# Altium schematic symbol library AdamsParts.SchLib: 265 symbols (part 1 of 3)
Pins are listed as number, name and electrical type; pins without a type are passive.

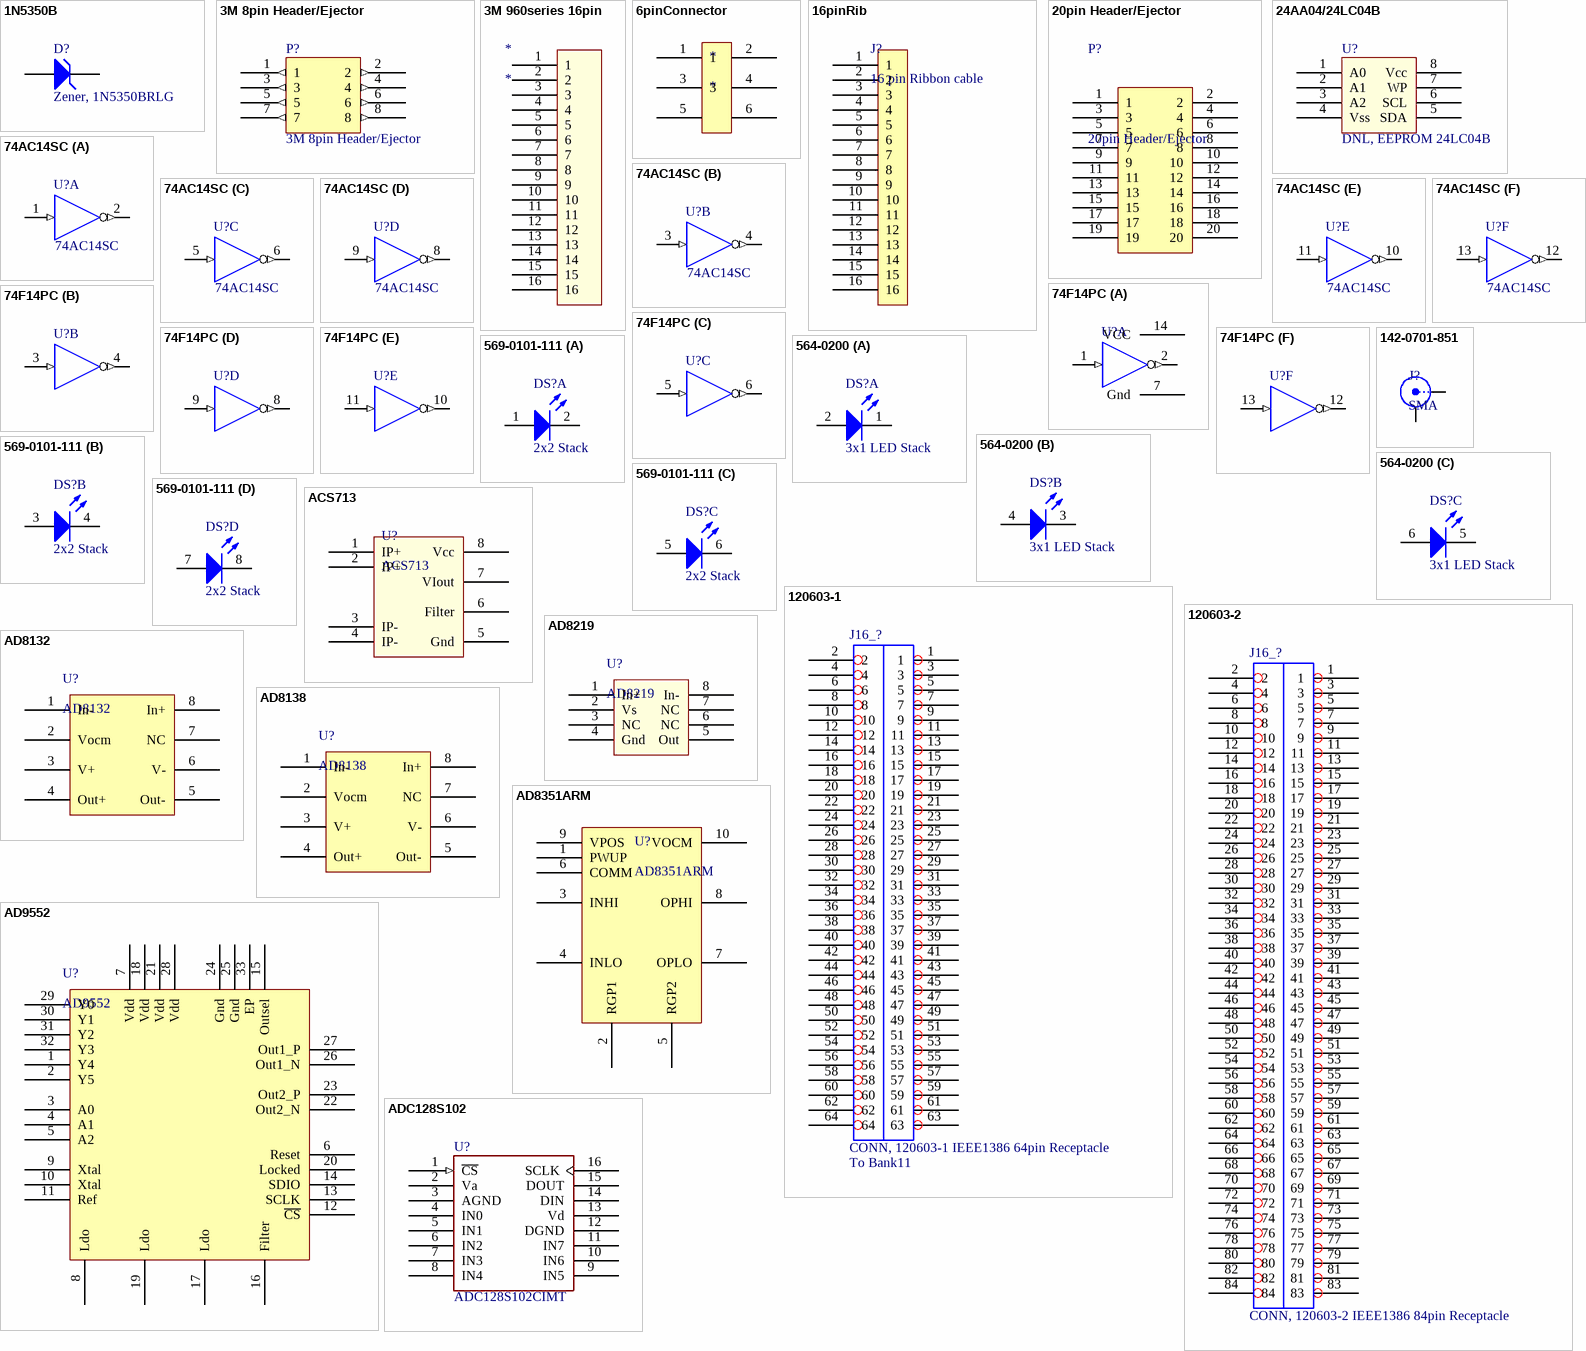
[diagram p0: symbols 1N5350B to ADC128S102]

## 1N5350B
designator D?, comment Zener, 1N5350BRLG
Zener Diode, 13V, 5W; Published: 8-Jun-2000; LatestRevisionDate: 17-Jul-2002; LatestRevisionNote: Re-released for DXP Platform.; PackageReference: A-500; Publisher: Altium Limited; ComponentLink1Description: Manufacturer Link; ComponentLink1URL: http://www.vishay.com/
footprint A-500 (Diode, Axial; Body 8.9 x 3.7 mm (LxDia. max), Lead Dia. 1.09 mm (max))
simulation model 1N5350B (DIODE)
signal-integrity model 1N5350B
pins: 1 A, 2 K

## 3M 8pin Header/Ejector
designator P?
footprint 3M 8pin latch/ejector
pins: 1 (out), 2 (out), 3 (out), 4 (out), 5 (out), 6 (out), 7 (out), 8 (out)

## 3M 960series 16pin
designator *
footprint 3M 960series 16pin
pins: 1, 2, 3, 4, 5, 6, 7, 8, 9, 10, 11, 12, 13, 14, 15, 16

## 6pinConnector
designator *
footprint Tyco 6pin Shrouded Header
pins: 1, 2, 3, 4, 5, 6

## 16pinRib
designator J?, comment 16 pin Ribbon cable
footprint 16pinRib (16 pin ribbon connector)
pins: 1, 2, 3, 4, 5, 6, 7, 8, 9, 10, 11, 12, 13, 14, 15, 16

## 20pin Header/Ejector
designator P?
footprint AmpLatch5102159-4 (20pin 2 row right angle header with latch/ejector)
pins: 1, 2, 3, 4, 5, 6, 7, 8, 9, 10, 11, 12, 13, 14, 15, 16, 17, 18, 19, 20

## 24AA04/24LC04B
designator U?, comment DNL, EEPROM 24LC04B
4K I2C Serial EEPROM
footprint TSSOP8-4.4 (8-Lead Plastic TSSOP 4.4mm)
pins: 1 A0, 2 A1, 3 A2, 4 Vss (power), 5 SDA, 6 SCL, 7 WP, 8 Vcc (power)

## 74AC14SC
designator U?
Hex Schmitt-Trigger Inverter, 14-Pin SOIC, Commercial Grade; IC_Technology: AC; Published: 17-Jul-2002; LatestRevisionDate: 13-Apr-2006; LatestRevisionNote: IPC-7351 Footprint Added.; DatasheetVersion: Dec-1999; PackageVersion: 2000; PackageReference: M14A; Publisher: Altium Limited; PackageDescription: 14-Pin Small Outline Integrated Circuit 1.27 mm Pitch; Code_IPC: SOIC127P600-14; ComponentLink1Description: Manufacturer Link; ComponentLink1URL: http://www.fairchildsemi.com/; ComponentLink2Description: Datasheet; ComponentLink2URL: http://www.fairchildsemi.com/ds/74%2F74AC14.pdf
footprint M14A_N (SOIC, 14-Leads, Body 8.6x3.9mm, Pitch 1.27mm, IPC Medium Density)
footprint M14A_L (SOIC, 14-Leads, Body 8.6x3.9mm, Pitch 1.27mm, IPC High Density)
footprint M14A_M (SOIC, 14-Leads, Body 8.6x3.9mm, Pitch 1.27mm, IPC Low Density)
3D model M14A (14-Pin Small Outline Integrated Circuit 1.27 mm Pitch)
simulation model FSC_74LS14 (SIMCODE)
signal-integrity model 74AC14SC
pins on every part: 7 GND (power) hidden to GND, 14 VCC (power) hidden to VCC
part A pins: 1 I (in), 2 ~{O} (out)
part B pins: 3 I (in), 4 ~{O} (out)
part C pins: 5 I (in), 6 ~{O} (out)
part D pins: 8 ~{O} (out), 9 I (in)
part E pins: 10 ~{O} (out), 11 I (in)
part F pins: 12 ~{O} (out), 13 I (in)

## 74F14PC
designator U?
Hex Inverter Schmitt-Trigger, 14-Pin PDIP, Commercial Grade; IC_Technology: F; Published: 17-Jul-2002; LatestRevisionDate: 29-May-2009; LatestRevisionNote: Component Body Added.; DatasheetVersion: Jul-1999; PackageVersion: 2000; PackageReference: N14A; Publisher: Altium Limited; PackageDescription: DIP, 14-Pin, Row Spacing 7.62 mm, Pitch 2.54 mm; ComponentLink1Description: Manufacturer Link; ComponentLink1URL: http://www.fairchildsemi.com/; ComponentLink2Description: Datasheet; ComponentLink2URL: http://www.fairchildsemi.com/ds/74%2F74F14.pdf
footprint N14A (DIP, 14-Leads, Row Spacing 7.62mm, Pitch 2.54mm, Body 19.18x6.35mm)
3D model N14A (DIP, 14-Pin, Row Spacing 7.62 mm, Pitch 2.54 mm)
simulation model FSC_74F14 (SIMCODE)
signal-integrity model 74F14PC
part A pins: 1 I (in), 2 ~{O} (out), 7 Gnd, 14 VCC
part B pins: 3 I (in), 4 ~{O} (out)
part C pins: 5 I (in), 6 ~{O} (out)
part D pins: 8 ~{O} (out), 9 I (in)
part E pins: 10 ~{O} (out), 11 I (in)
part F pins: 12 ~{O} (out), 13 I (in)

## 142-0701-851
designator J?, comment SMA
SMA Connector 142-0701-851; Part Constraints: CONN JACK END LAUNCH PC GOLD SMA; Manufacturer: Emerson Network Power Connectivity; Manufacturers P/N: 142-0701-851
footprint SMA-1420701851 (End launch SMA connector)
pins: 0 Y, 1 X

## 564-0200
designator DS?, comment 3x1 LED Stack
Color: Green (x 3); Configuration: 3 high x 1 wide; Voltage Rating: 2.0V; Current: 20mA; Lens Style/Size: Round, 3mm, T-1; Lens Type: Diffused, Red Tinted; Mounting Type: Through Hole, Right Angle; Packaging: Bulk
footprint LED3x1
part A pins: 1 K1, 2 A1
part B pins: 3 K2, 4 A2
part C pins: 5 K3, 6 A3

## 569-0101-111
designator DS?, comment 2x2 Stack
LED 2X2 3MM HI DENSITY RED PCMNT; Color: Red (x 4); Configuration: 2 high x 2 wide; Voltage Rating: 2.0V; Current: 20mA; Lens Style/Size: Round, 3mm, T-1; Lens Type: Diffused, Red Tinted; Mounting Type: Through Hole, Right Angle; Packaging: Bulk; ComponentLink1URL: http://www.dialight.com/Assets/Brochures_And_Catalogs/Indication/569-010x-xxx.pdf; ComponentLink1Description: http://www.dialight.com/Assets/Brochures_And_Catalogs/Indication/569-010x-xxx.pdf
footprint LED2x2 (LED 2x2 Stack from Dialight)
part A pins: 1 A1, 2 K1
part B pins: 3 A2, 4 K2
part C pins: 5 A3, 6 K3
part D pins: 7 A4, 8 K4

## 120603-1
designator J16_?, comment CONN, 120603-1 IEEE1386 64pin Receptacle  Relation: To Bank11
1.0mm FH (IEEE1386) 64-pin Connector
footprint 120603-1
pins: 1, 2, 3, 4, 5, 6, 7, 8, 9, 10, 11, 12, 13, 14, 15, 16, 17, 18, 19, 20, 21, 22, 23, 24, 25, 26, 27, 28, 29, 30, 31, 32, 33, 34, 35, 36, 37, 38, 39, 40, 41, 42, 43, 44, 45, 46, 47, 48, 49, 50, 51, 52, 53, 54, 55, 56, 57, 58, 59, 60, 61, 62, 63, 64

## 120603-2
designator J16_?, comment CONN, 120603-2 IEEE1386 84pin Receptacle
1.0mm FH (IEEE1386) 84-pin Connector
footprint 120603-2 (1.0mm FH (IEEE1386) 84-Pin Connector)
pins: 1, 2, 3, 4, 5, 6, 7, 8, 9, 10, 11, 12, 13, 14, 15, 16, 17, 18, 19, 20, 21, 22, 23, 24, 25, 26, 27, 28, 29, 30, 31, 32, 33, 34, 35, 36, 37, 38, 39, 40, 41, 42, 43, 44, 45, 46, 47, 48, 49, 50, 51, 52, 53, 54, 55, 56, 57, 58, 59, 60, 61, 62, 63, 64, 65, 66, 67, 68, 69, 70, 71, 72, 73, 74, 75, 76, 77, 78, 79, 80, 81, 82, 83, 84

## ACS713
designator U?
Hall effect current sensor 0-20A
footprint SO8
pins: 1 IP+, 2 IP+, 3 IP-, 4 IP-, 5 Gnd, 6 Filter, 7 VIout, 8 Vcc

## AD8132
designator U?
IC AMP DIFF
footprint SOP8
pins: 1 In-, 2 Vocm, 3 V+, 4 Out+, 5 Out-, 6 V-, 7 NC, 8 In+
1 alternate drawing of the same symbol

## AD8138
designator U?
IC AMP DIFF LDIST LP 95MA 8SOIC; Manufacturer: Analog Devices Inc; Manufacturers Part Number: AD8138ARZ; Assembly Comments: none; Supplier 1: Digi-Key; RoHS: RoHS Compliant; Category: Integrated Circuits (ICs); Type: IC; Applications: Data Acquisition; Mounting Type: Surface Mount; Package / Case: 8-SOIC (0.154", 3.90mm Width); Supplier Device Package: 8-SOIC; Packaging: Tube; ComponentLink1URL: http://www.analog.com/static/imported-files/data_sheets/AD8138.pdf; ComponentLink1Description: http://www.analog.com/static/imported-files/data_sheets/AD8138.pdf; Part Constraints: AD8138ARZ; SupplierUnitCost: $6.44
footprint SO8
pins: 1 In-, 2 Vocm, 3 V+, 4 Out+, 5 Out-, 6 V-, 7 NC, 8 In+
1 alternate drawing of the same symbol

## AD8219
designator U?
Current sense
footprint MSOP-8
pins: 1 In+, 2 Vs, 3 NC, 4 Gnd, 5 Out, 6 NC, 7 NC, 8 In-

## AD8351ARM
designator U?
footprint MSOP-UN10_N (TSSOP, 10-Leads, Body 3x3mm, Pitch 0.5mm, IPC Medium Density)
pins: 1 PWUP, 2 RGP1, 3 INHI, 4 INLO, 5 RGP2, 6 COMM, 7 OPLO, 8 OPHI, 9 VPOS, 10 VOCM

## AD9552
designator U?
PLL
footprint QFN50P500X475X100-32N (QFN, 32-Leads, Body 4.8x5.0mm (max), Pitch 0.50mm, IPC Medium Density)
pins: 1 Y4, 2 Y5, 3 A0, 4 A1, 5 A2, 6 Reset, 7 Vdd, 8 Ldo, 9 Xtal, 10 Xtal, 11 Ref, 12 ~{CS}, 13 SCLK, 14 SDIO, 15 Outsel, 16 Filter, 17 Ldo, 18 Vdd, 19 Ldo, 20 Locked, 21 Vdd, 22 Out2_N, 23 Out2_P, 24 Gnd, 25 Gnd, 26 Out1_N, 27 Out1_P, 28 Vdd, 29 Y0, 30 Y1, 31 Y2, 32 Y3, 33 EP

## ADC128S102
designator U?, comment ADC128S102CIMT
ADC, 8-Channels, 500kSPS to 1 MSPS, 12-Bit; Manufacturer: National Semiconductor; Manufacturers P/N: ADC128S102CIMT/NOPB; Footprint: *
footprint TSSOP-16
pins: 1 ~{CS} (in), 2 Va (power), 3 AGND (power), 4 IN0, 5 IN1, 6 IN2, 7 IN3, 8 IN4, 9 IN5, 10 IN6, 11 IN7, 12 DGND (power), 13 Vd (power), 14 DIN, 15 DOUT, 16 SCLK

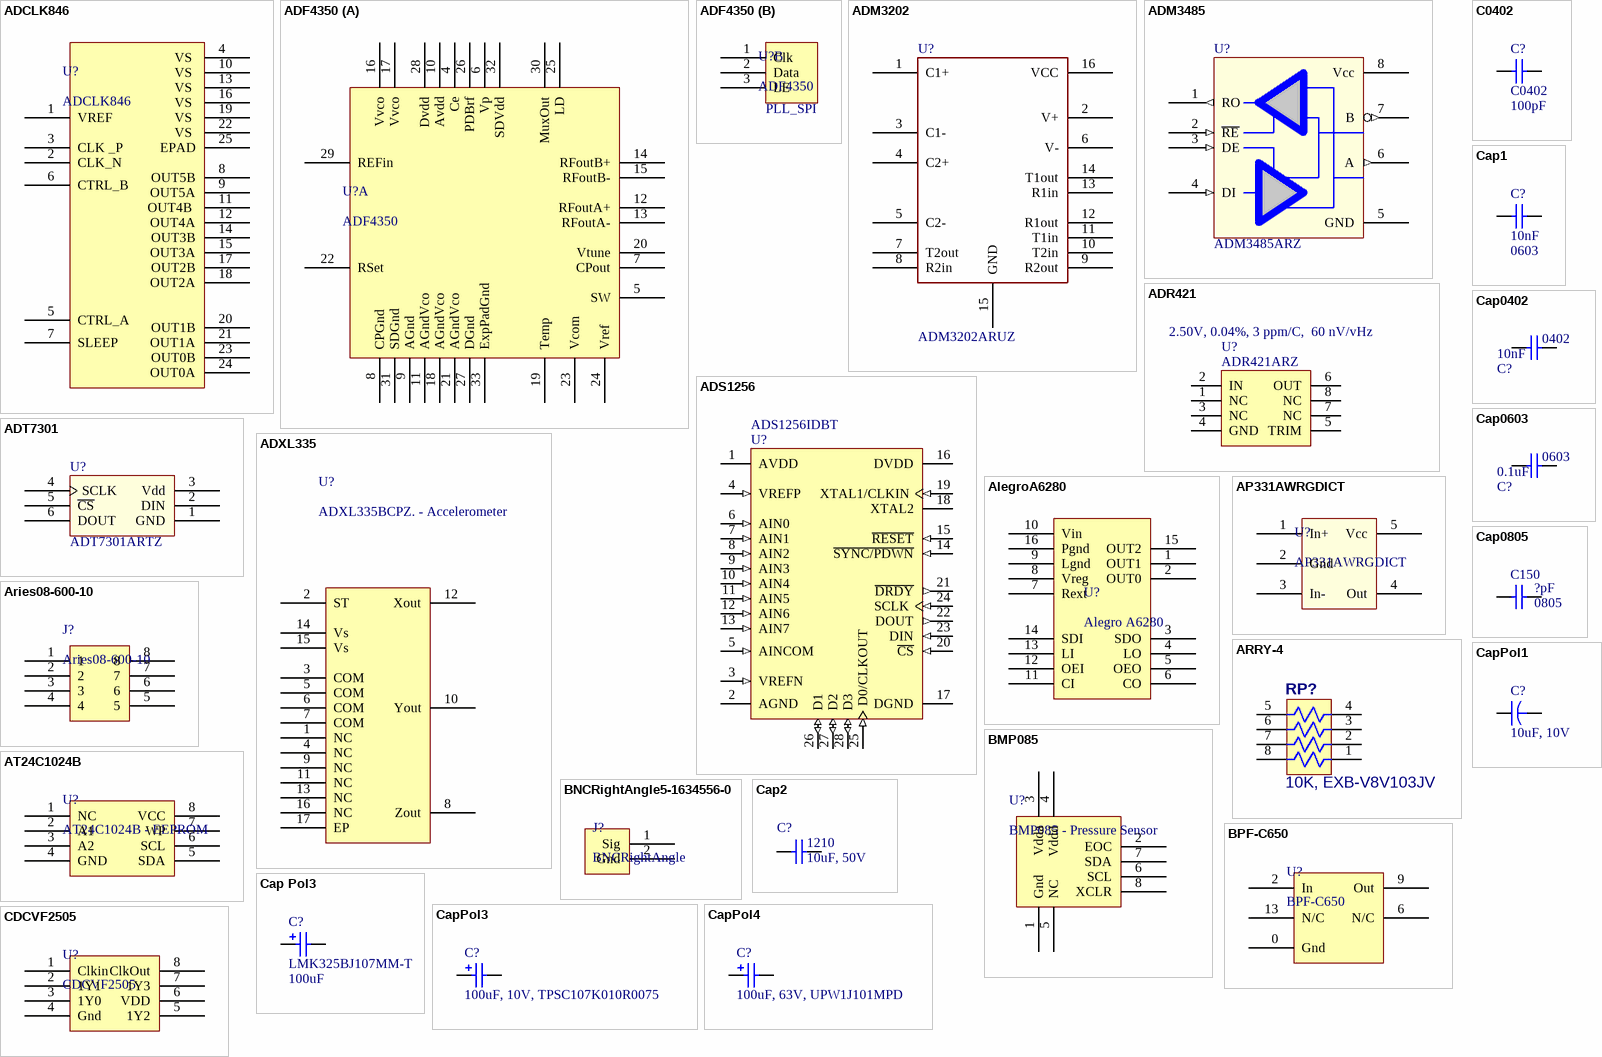
[diagram p1: symbols ADCLK846 to CDCVF2505]

## ADCLK846
designator U?
Clock fanout buffer
footprint QFN50P400X375X100-24N (QFN, 24-Leads, Body 3.8x4.0mm (max), Pitch 0.50mm, IPC Medium Density)
pins: 1 VREF , 2 CLK_N, 3 CLK _P, 4 VS , 5 CTRL_A , 6 CTRL_B , 7 SLEEP , 8 OUT5B, 9 OUT5A, 10 VS , 11 OUT4B , 12 OUT4A, 13 VS , 14 OUT3B, 15 OUT3A, 16 VS , 17 OUT2B, 18 OUT2A, 19 VS , 20 OUT1B, 21 OUT1A, 22 VS , 23 OUT0B, 24 OUT0A, 25 EPAD

## ADF4350
designator U?
footprint QFN50P500X475X100-32M (QFN, 32-Leads, Body 4.8x5.0mm (max), Pitch 0.50mm, IPC Low Density)
part A pins: 4 Ce, 5 SW, 6 Vp, 7 CPout, 8 CPGnd, 9 AGnd, 10 Avdd, 11 AGndVco, 12 RFoutA+, 13 RFoutA-, 14 RFoutB+, 15 RFoutB-, 16 Vvco, 17 Vvco, 18 AGndVco, 19 Temp, 20 Vtune, 21 AGndVco, 22 RSet, 23 Vcom, 24 Vref, 25 LD, 26 PDBrf, 27 DGnd, 28 Dvdd, 29 REFin, 30 MuxOut, 31 SDGnd, 32 SDVdd, 33 ExpPadGnd
part B pins: 1 Clk, 2 Data, 3 LE
part B text: PLL_SPI

## ADM3202
designator U?, comment ADM3202ARUZ
Transceiver, Dual RS232; Manufacturer: Analog Devices Inc; Footprint: *; Manufacturers P/N: ADM3202ARUZ
footprint TSSOP-16
pins: 1 C1+, 2 V+ (power), 3 C1-, 4 C2+, 5 C2-, 6 V- (power), 7 T2out, 8 R2in, 9 R2out, 10 T2in, 11 T1in, 12 R1out, 13 R1in, 14 T1out, 15 GND (power), 16 VCC (power)

## ADM3485
designator U?, comment ADM3485ARZ
Transceiver, 20 Mbps, EIA RS-485; Manufacturer: Analog Devices Inc; Footprint: *; Manufacturers P/N: ADM3485ARZ
footprint SO8
pins: 1 RO (out), 2 ~{RE} (in), 3 DE (in), 4 DI (in), 5 GND (power), 6 A (out), 7 B (out), 8 Vcc (power)

## ADR421
designator U?, comment ADR421ARZ  Param: 2.50V, 0.04%, 3 ppm/C,  60 nV/vHz
Voltage Reference, 2.50V, 0.04%; Manufacturer: Analog Devices Inc; Footprint: *; Manufacturers P/N: ADR421ARZ
footprint SO8
pins: 1 NC, 2 IN (power), 3 NC, 4 GND (power), 5 TRIM, 6 OUT (power), 7 NC, 8 NC

## ADS1256
designator U?, comment ADS1256IDBT
ADC 24-Bit; Manufacturer: Texas Instruments; Footprint: SSOP-28; Manufacturers P/N: ADS1256IDBT
footprint SSOP-28
pins: 1 AVDD (power), 2 AGND (power), 3 VREFN (in), 4 VREFP (in), 5 AINCOM (in), 6 AIN0 (in), 7 AIN1 (in), 8 AIN2 (in), 9 AIN3 (in), 10 AIN4 (in), 11 AIN5 (in), 12 AIN6 (in), 13 AIN7 (in), 14 ~{SYNC/PDWN} (in), 15 ~{RESET} (in), 16 DVDD (power), 17 DGND (power), 18 XTAL2, 19 XTAL1/CLKIN (in), 20 ~{CS} (in), 21 ~{DRDY} (out), 22 DOUT (out), 23 DIN (in), 24 SCLK (in), 25 D0/CLKOUT (in), 26 D1 (io), 27 D2 (io), 28 D3 (io)

## ADT7301
designator U?, comment ADT7301ARTZ
Digital Temperature Sensor, 13-Bit, +/-1 Degree Accurate; Manufacturer: Analog Devices Inc; Footprint: *; Manufacturers P/N: ADT7301ARTZ
pins: 1 GND (power), 2 DIN, 3 Vdd (power), 4 SCLK, 5 ~{CS}, 6 DOUT

## ADXL335
designator U?, comment ADXL335BCPZ. - Accelerometer
footprint ADXL335 (QFN, 16-Leads, Body 4.2x4.2mm (max), Pitch 0.65mm, IPC Low Density)
pins: 1 NC, 2 ST, 3 COM, 4 NC, 5 COM, 6 COM, 7 COM, 8 Zout, 9 NC, 10 Yout, 11 NC, 12 Xout, 13 NC, 14 Vs, 15 Vs, 16 NC, 17 EP

## AlegroA6280
designator U?, comment Alegro A6280
footprint DIP16
pins: 1 OUT1, 2 OUT0, 3 SDO, 4 LO, 5 OEO, 6 CO, 7 Rext, 8 Vreg, 9 Lgnd, 10 Vin, 11 CI, 12 OEI, 13 LI, 14 SDI, 15 OUT2, 16 Pgnd

## AP331AWRGDICT
designator U?
footprint SOT23-5
pins: 1 In+, 2 Gnd, 3 In-, 4 Out, 5 Vcc

## Aries08-600-10
designator J?
Aries08-600-10 - Dip 8 header
footprint Aries08-600-10 (8 PIN DIP HEADER)
pins: 1, 2, 3, 4, 5, 6, 7, 8

## ARRY-4
designator RP?, comment 10K, EXB-V8V103JV
4x 0603 RES ARRAY 10K OHM 5% SMD; Part Field 1: Chip Resistor Array in 3.2 x 1.6 Concave package; Manufacturer: Panasonic - ECG; Part Field 2: {Panasonic} EXBV8V101J; Manufacturers P/N: EXB-V8V103JV
footprint EXB-V8V
pins: 1 R1A, 2 R2A, 3 R3A, 4 R4A, 5 R4B, 6 R3B, 7 R2B, 8 R1B

## AT24C1024B
designator U?, comment AT24C1024B - EEPROM
footprint SO8/L200
pins: 1 NC, 2 A1, 3 A2, 4 GND, 5 SDA, 6 SCL, 7 WP, 8 VCC

## BMP085
designator U?, comment BMP085 - Pressure Sensor
footprint BMP085 (Pressure sensor)
pins: 1 Gnd, 2 EOC, 3 Vdda, 4 Vddd, 5 NC, 6 SCL, 7 SDA, 8 XCLR

## BNCRightAngle5-1634556-0
designator J?, comment BNCRightAngle
footprint BNCRightAngle5-1634556-0
pins: 1 Sig, 2 Gnd

## BPF-C650
designator U?
footprint HU1186
pins: 0 Gnd, 2 In, 6 N/C, 9 Out, 13 N/C

## C0402
designator C?  value 100pF
CAP CER 100PF 50V C0G 1% 0402; Manufacturers P/N: e.g C1005C0G1H101F; Manufacturer: e.g TDK Corporation; Part constraints: 100pF 0402 >=6V 1% Low ESR Ceramic; Note: Footprint corresponds to dimensions for bulk cassette packaging. This case size has tightened tolerances.; CanPurchaseFrom: Digikey; Published: 17-Jul-2002; LatestRevisionDate: 19-Mar-2004; LatestRevisionNote: Silkscreen size reduced.; DatasheetDocument: Mar-2001; PackageDocument: Mar-2001; PackageReference: 0402; Publisher: Altium Limited; Code_JEITA: 0402; Code_IPC: 1005 [0402]; ComponentLink1Description: Manufacturer Link; ComponentLink1URL: http://www.kemet.com/; ComponentLink2Description: Datasheet; ComponentLink2URL: http://www.kemet.com/kemet/web/homepage/kechome.nsf/vapubfilesname/F3102TA.pdf/$file/F3102TA.pdf
footprint 0402 (Chip Capacitor; Body 1.0 x 0.5 mm (LxW typ))
simulation model CAP (Capacitor)
signal-integrity model C0402
pins: 1, 2

## Cap1
designator C?, comment 10nF  Footprint: 0603
CAP 10000PF 5% 50V CERAMIC X7R 0603 (or Equivalent); Manufacturer: Kemet; Manufacturers P/N: C0603C103J5RACTU
simulation model CAP (Capacitor)
signal-integrity model Cap
footprint 0603
pins: 1, 2

## Cap2
designator C?, comment 10uF, 50V  Footprint: 1210
CAP CER 10UF, 50V, 10%, UMK325BJ106KM-T; Manufacturer: Taiyo Yuden; Param: 50V, X5R, 10%; Manufacturers P/N: UMK325BJ106KM-T
simulation model CAP (Capacitor)
signal-integrity model Cap
footprint 1210
pins: 1, 2

## Cap0402
designator C?, comment 10nF  Footprint: 0402
Capacitor, Ceramic, 0402; TechInf: *; Param1: *
simulation model CAP (Capacitor)
signal-integrity model Cap
pins: 1, 2

## Cap0603
designator C?, comment 0.1uF  Footprint: 0603
Capacitor, Ceramic, 0603; TechInf: *; Param1: *
simulation model CAP (Capacitor)
signal-integrity model Cap
footprint 0603
footprint 0805
pins: 1, 2

## Cap0805
designator C150, comment ?pF
0805; CanPurchaseFrom: Digikey; TechInf: *; Param1: *; Footprint: 0805
simulation model CAP (Capacitor)
signal-integrity model Cap
footprint 0805
pins: 1, 2

## Cap Pol3
designator C?, comment LMK325BJ107MM-T  value 100uF
CAP CER 100UF 10V X5R 1210 20%; Manufacturer: Taiyo Yuden; Published: 8-Jun-2000; Publisher: Altium Limited; PackageDescription: Chip Capacitor; Manufacturers P/N: LMK325BJ107MM-T
simulation model CAP (Capacitor)
signal-integrity model Cap Pol
footprint 1210 (Chip Capacitor; Body 3.2 x 2.5 mm (LxW typ))
pins: 1, 2
1 alternate drawing of the same symbol

## CapPol1
designator C?, comment 10uF, 10V
CAP CER 10V, X5R, 10%, LMK212BJ106KG-T; Manufacturer: Taiyo Yuden; Footprint: 0805; Param: 10V, X5R, 10%; Manufacturers P/N: LMK212BJ106KG-T
simulation model CAP (Capacitor)
signal-integrity model Cap
footprint 0805
pins: 1, 2

## CapPol3
designator C?, comment 100uF, 10V, TPSC107K010R0075
CAP TANT LOESR 100uFx10V 10% SMD; Manufacturer: AVX Corporation; Footprint: 7343-31 (EIA); Manufacturers P/N: TPSC107K010R0075
simulation model CAP (Capacitor)
signal-integrity model Cap Pol
footprint TCASE-D
footprint TCASE-A
pins: 1, 2
1 alternate drawing of the same symbol

## CapPol4
designator C?, comment 100uF, 63V, UPW1J101MPD
CAP Radial 100uF 63V 20% (or Equivalent); Manufacturer: Nichicon; Footprint: *; Manufacturers P/N: UPW1J101MPD
simulation model CAP (Capacitor)
signal-integrity model Cap Pol
footprint CC-10X12-5
pins: 1, 2
1 alternate drawing of the same symbol

## CDCVF2505
designator U?
PLL 24->200Mhz PLL
footprint TSOP65P640X120-8N (TSOP, 8-Leads, Body 3.1x4.5mm (max), Pitch 0.65mm, IPC Medium Density)
footprint SO8
pins: 1 Clkin, 2 1Y1, 3 1Y0, 4 Gnd, 5 1Y2, 6 VDD, 7 1Y3, 8 ClkOut

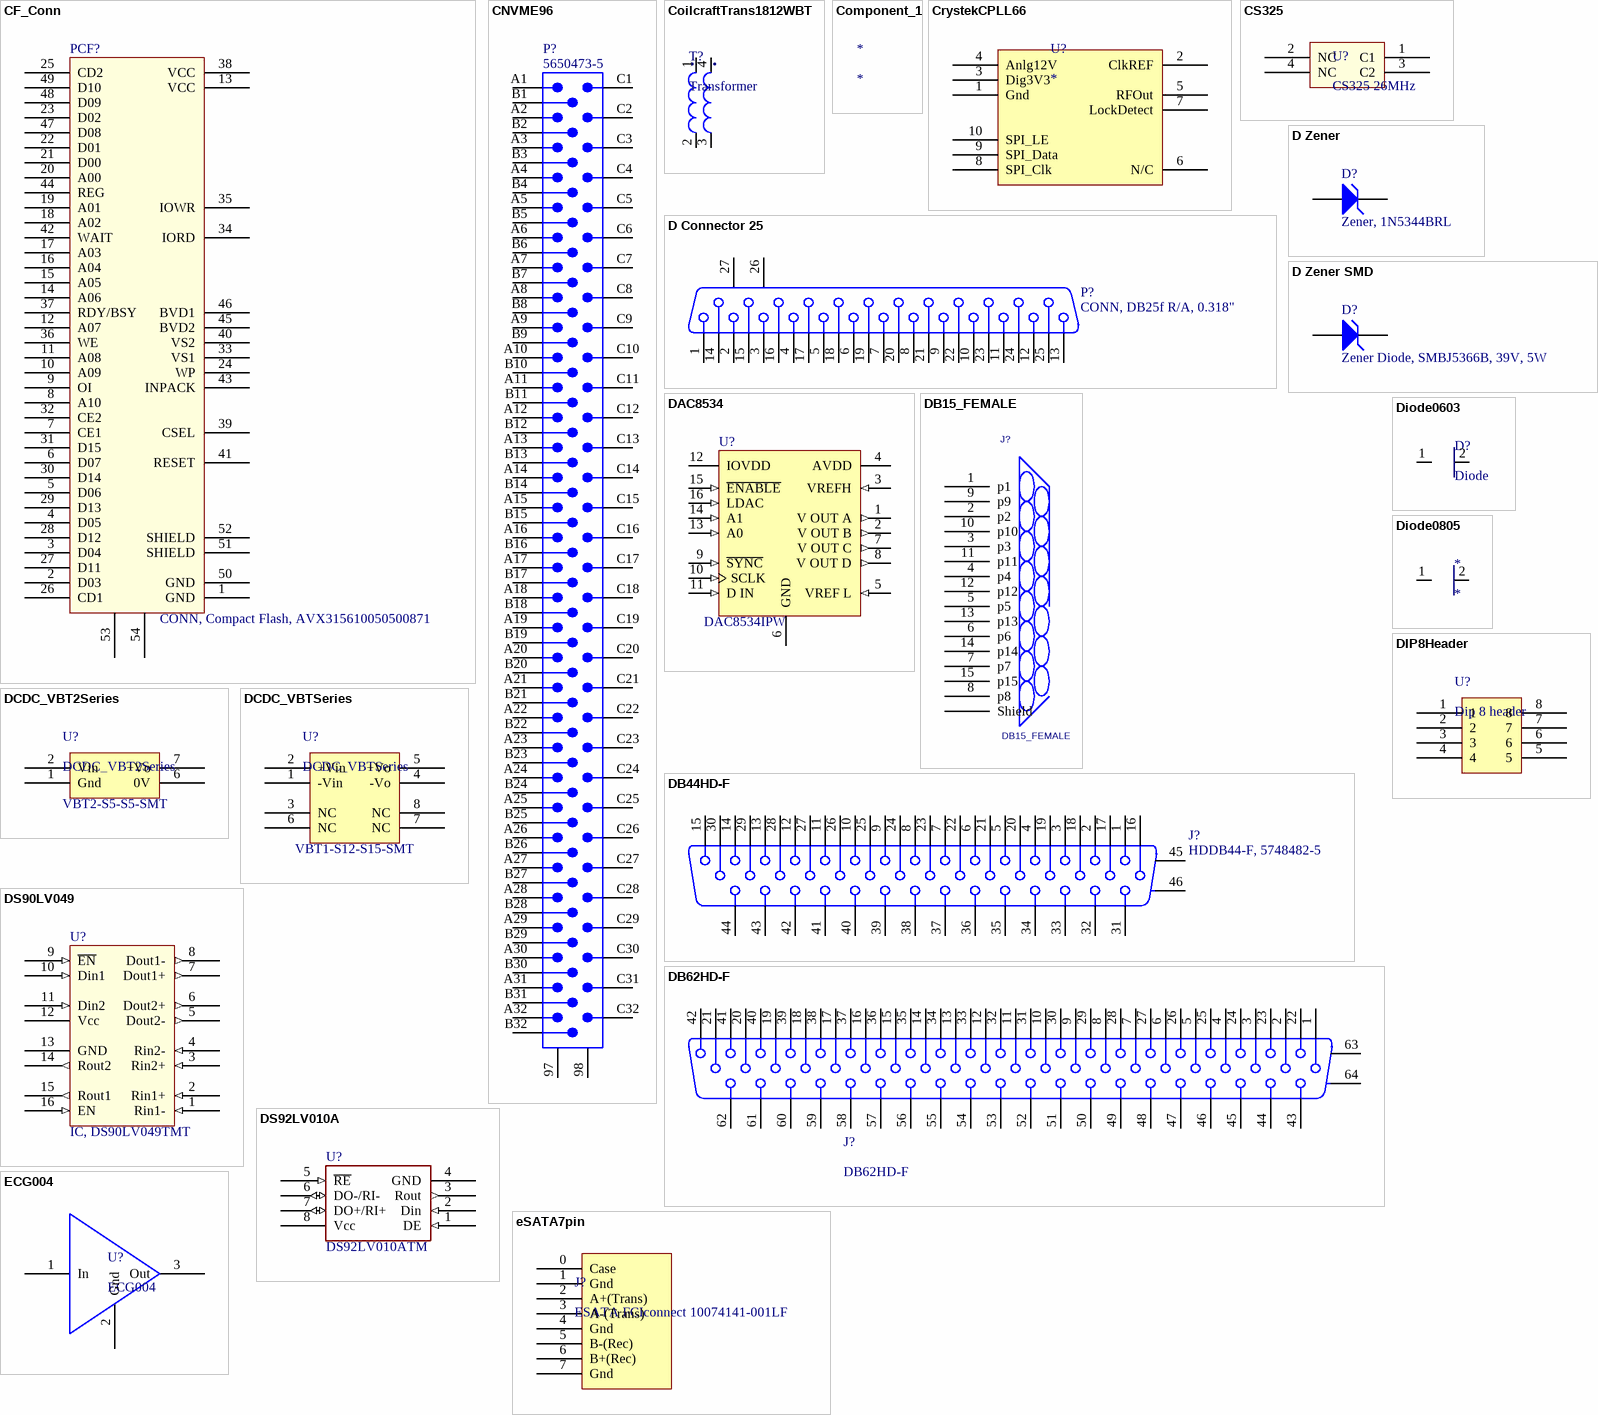
[diagram p2: symbols CF_Conn to eSATA7pin]

## CF_Conn
designator PCF?, comment CONN, Compact Flash, AVX315610050500871
Compact Flash Connector
footprint CF/SM0.635-6H50 (Connector; CompactFlash Card Header, SM; Normal Polarization; 50 Position; Right Angle; Pitch 0.635 mm)
footprint CF_AVX5611 (CompactFlash Card Header, SM; Normal Polarization; 50 Position; Right Angle; Pitch 0.635 mm)
pins: 1 GND, 2 D03, 3 D04, 4 D05, 5 D06, 6 D07, 7 CE1, 8 A10, 9 OI, 10 A09, 11 A08, 12 A07, 13 VCC, 14 A06, 15 A05, 16 A04, 17 A03, 18 A02, 19 A01, 20 A00, 21 D00, 22 D01, 23 D02, 24 WP, 25 CD2, 26 CD1, 27 D11, 28 D12, 29 D13, 30 D14, 31 D15, 32 CE2, 33 VS1, 34 IORD, 35 IOWR, 36 WE, 37 RDY/BSY, 38 VCC, 39 CSEL, 40 VS2, 41 RESET, 42 WAIT, 43 INPACK, 44 REG, 45 BVD2, 46 BVD1, 47 D08, 48 D09, 49 D10, 50 GND, 51 SHIELD, 52 SHIELD, 53 GND, 54 GND

## CNVME96
designator P?, comment 5650473-5
CONN, EURO 96-Pin (3x32 2.54mm grid); Manufacturer: Tyco Electronics; Text Field6: Alternate Layout Available; Text Field7: Published 14-Feb-2002; Manufacturers P/N: 5650473-5
footprint CNVME96
pins: 97, 98, A1, A2, A3, A4, A5, A6, A7, A8, A9, A10, A11, A12, A13, A14, A15, A16, A17, A18, A19, A20, A21, A22, A23, A24, A25, A26, A27, A28, A29, A30, A31, A32, B1, B2, B3, B4, B5, B6, B7, B8, B9, B10, B11, B12, B13, B14, B15, B16, B17, B18, B19, B20, B21, B22, B23, B24, B25, B26, B27, B28, B29, B30, B31, B32, C1, C2, C3, C4, C5, C6, C7, C8, C9, C10, C11, C12, C13, C14, C15, C16, C17, C18, C19, C20, C21, C22, C23, C24, C25, C26, C27, C28, C29, C30, C31, C32
1 alternate drawing of the same symbol

## CoilcraftTrans1812WBT
designator T?, comment Transformer
Coilcraft Transformer 1812WBT
footprint Coilcraft1812Transformer
pins: 1, 2, 3, 4
text: .

## Component_1
designator *

## CrystekCPLL66
designator U?
footprint CPLL66
pins: 1 Gnd, 2 ClkREF, 3 Dig3V3, 4 Anlg12V, 5 RFOut, 6 N/C, 7 LockDetect, 8 SPI_Clk, 9 SPI_Data, 10 SPI_LE

## CS325
designator U?, comment CS325 26MHz
pins: 1 C1, 2 NC, 3 C2, 4 NC

## D Connector 25
designator P?, comment CONN, DB25f R/A, 0.318"
Amp 5747846-4 or ITT DBMG25SJA197; PackageDocument: U; Positions: 25; Gender: Receptacle; Published: 15-Jun-2001; LatestRevisionDate: 17-Jul-2002; LatestRevisionNote: Re-released for DXP Platform.; DatasheetDocument: 19-Mar-1999; PackageReference: 787202; Publisher: Altium Limited; Orientation: Right Angle
footprint DSUB1.385-2H25A (Connector; D Subminiature; 25 Position; Right Angle; Pitch 1.385 mm)
signal-integrity model Connector
pins: 1, 2, 3, 4, 5, 6, 7, 8, 9, 10, 11, 12, 13, 14, 15, 16, 17, 18, 19, 20, 21, 22, 23, 24, 25, 26 MH1, 27 MH2

## D Zener
designator D?, comment Zener, 1N5344BRL
Zener Diode, 8.2V, 5W; Published: 8-Jun-2000; LatestRevisionDate: 17-Jul-2002; LatestRevisionNote: Re-released for DXP Platform.; Publisher: Altium Limited
footprint DIODE-0.7 (Zener Diode; 2 Leads)
simulation model ZENER (Diode)
signal-integrity model D Zener
pins: 1 A, 2 K

## D Zener SMD
designator D?, comment Zener Diode, SMBJ5366B, 39V, 5W
Zener Diode SMD, 39V, 5W; Manufacturer: Micro Commercial Co; Manufacturers P/N: SMBJ5366B-TP; Footprint: *
footprint DO-214AA
pins: 1 K, 2 A

## DAC8534
designator U?, comment DAC8534IPW
DAC, 16-Bit Quad channel, 16-bit, Serial Input; Manufacturer: Texas Instruments; Published: 8-Jun-2000; LatestRevisionDate: 13-Apr-2006; LatestRevisionNote: IPC-7351 Footprint Added.; PackageReference: 211F; Publisher: Altium Limited; PackageDescription: 16-Pin Small Outline Integrated Circuit 1.27 mm Pitch; Code_JEDEC: MS-013-AA; Code_IPC: SOIC127P1030-16; ComponentLink1Description: Manufacturer Link; ComponentLink1URL: http://www.ti.com/; ComponentLink2Description: Datasheet; ComponentLink2URL: http://www-s.ti.com/sc/ds/dac716.pdf; DatasheetVersion: 1996~1997; Manufacturers P/N: DAC8534IPW
footprint TSSOP-16
pins: 1 V OUT A (out), 2 V OUT B (out), 3 VREFH (in), 4 AVDD (power), 5 VREF L (in), 6 GND (power), 7 V OUT C (out), 8 V OUT D (out), 9 ~{SYNC} (in), 10 SCLK (in), 11 D IN (in), 12 IOVDD (power), 13 A0 (in), 14 A1 (in), 15 ~{ENABLE} (in), 16 LDAC (in)

## DB15_FEMALE
designator J?
COMPFIXED: NO; COMPGROUP: 0; COMPHEIGHT: 0.000; COMPLOC: [4502.733,1338.467]; COMPROT: 270; COMPSIDE: TOP; COMPKEY: NO; COMPLOCKED: NO; DECOUPLER: NO; MEMORY: NO
footprint DSUB/RS.318/TM/15
pins: 1 p1, 2 p2, 3 p3, 4 p4, 5 p5, 6 p6, 7 p7, 8 p8, 9 p9, 10 p10, 11 p11, 12 p12, 13 p13, 14 p14, 15 p15, Hole30 Shield

## DB44HD-F
designator J?, comment HDDB44-F, 5748482-5
CONN, High Density DB44 Female; Manufacturer: Tyco Electronics; Footprint: *; Manufacturers P/N: 5748482-5
footprint DSUBHD44
pins: 1, 2, 3, 4, 5, 6, 7, 8, 9, 10, 11, 12, 13, 14, 15, 16, 17, 18, 19, 20, 21, 22, 23, 24, 25, 26, 27, 28, 29, 30, 31, 32, 33, 34, 35, 36, 37, 38, 39, 40, 41, 42, 43, 44, 45, 46

## DB62HD-F
designator J?
footprint HD_DB62
pins: 1, 2, 3, 4, 5, 6, 7, 8, 9, 10, 11, 12, 13, 14, 15, 16, 17, 18, 19, 20, 21, 22, 23, 24, 25, 26, 27, 28, 29, 30, 31, 32, 33, 34, 35, 36, 37, 38, 39, 40, 41, 42, 43, 44, 45, 46, 47, 48, 49, 50, 51, 52, 53, 54, 55, 56, 57, 58, 59, 60, 61, 62, 63, 64

## DCDC_VBT2Series
designator U?  Manufacturers Part Number: VBT2-S5-S5-SMT
Isolated DCDC 12V to 15V
footprint VBT2SMT (DCDC Converter VBT2SMT series (CUI inc))
pins: 1 Gnd, 2 Vin, 6 0V, 7 +Vo

## DCDC_VBTSeries
designator U?  Manufacturers Part Number: VBT1-S12-S15-SMT
Isolated DCDC 12V to 15V
footprint VBT1SMT (DCDC Converter VBT1SMT series (CUI inc))
pins: 1 -Vin, 2 +Vin, 3 NC, 4 -Vo, 5 +Vo, 6 NC, 7 NC, 8 NC

## Diode0603
designator D?, comment Diode
footprint CR1608-0603M
pins: 1, 2

## Diode0805
designator *
footprint Diode0805
pins: 1, 2

## DIP8Header
designator U?, comment Dip 8 header
footprint DIP8Header (8 PIN DIP HEADER)
pins: 1, 2, 3, 4, 5, 6, 7, 8

## DS90LV049
designator U?, comment IC, DS90LV049TMT
3V LVDS Dual Line Transceiver
footprint TSSO5x6-G16 (Shrink Small Outline; 16 Leads; Body Width 4.4 mm; Pitch 0.65 mm)
pins: 1 Rin1- (in), 2 Rin1+ (in), 3 Rin2+ (in), 4 Rin2- (in), 5 Dout2- (out), 6 Dout2+ (out), 7 Dout1+ (out), 8 Dout1- (out), 9 ~{EN} (in), 10 Din1 (in), 11 Din2 (in), 12 Vcc (power), 13 GND (power), 14 Rout2 (out), 15 Rout1 (out), 16 EN (in)

## DS92LV010A
designator U?, comment DS92LV010ATM
Transceiver, Bus LVDS 3.3/5.0V Single; Manufacturer: National Semiconductor; Manufacturers P/N: DS92LV010ATM/NOPB; Footprint: *; Techinf: DS92LV010ATM
footprint SO8
pins: 1 DE (in), 2 Din (in), 3 Rout (out), 4 GND (power), 5 ~{RE} (in), 6 DO-/RI- (io), 7 DO+/RI+ (io), 8 Vcc (power)

## ECG004
designator U?
TriQuint Amplifier DC-6Ghz
footprint SBA5089
pins: 1 In, 2 Gnd, 3 Out

## eSATA7pin
designator J?, comment ESATA FCIconnect 10074141-001LF
Esata connector FCIconnect 10074141-001LF
footprint ESATA-PU-07 (eSATA connector FCIconnect 10074141-001LF)
pins: 0 Case, 1 Gnd, 2 A+(Trans), 3 A-(Trans), 4 Gnd, 5 B-(Rec), 6 B+(Rec), 7 Gnd

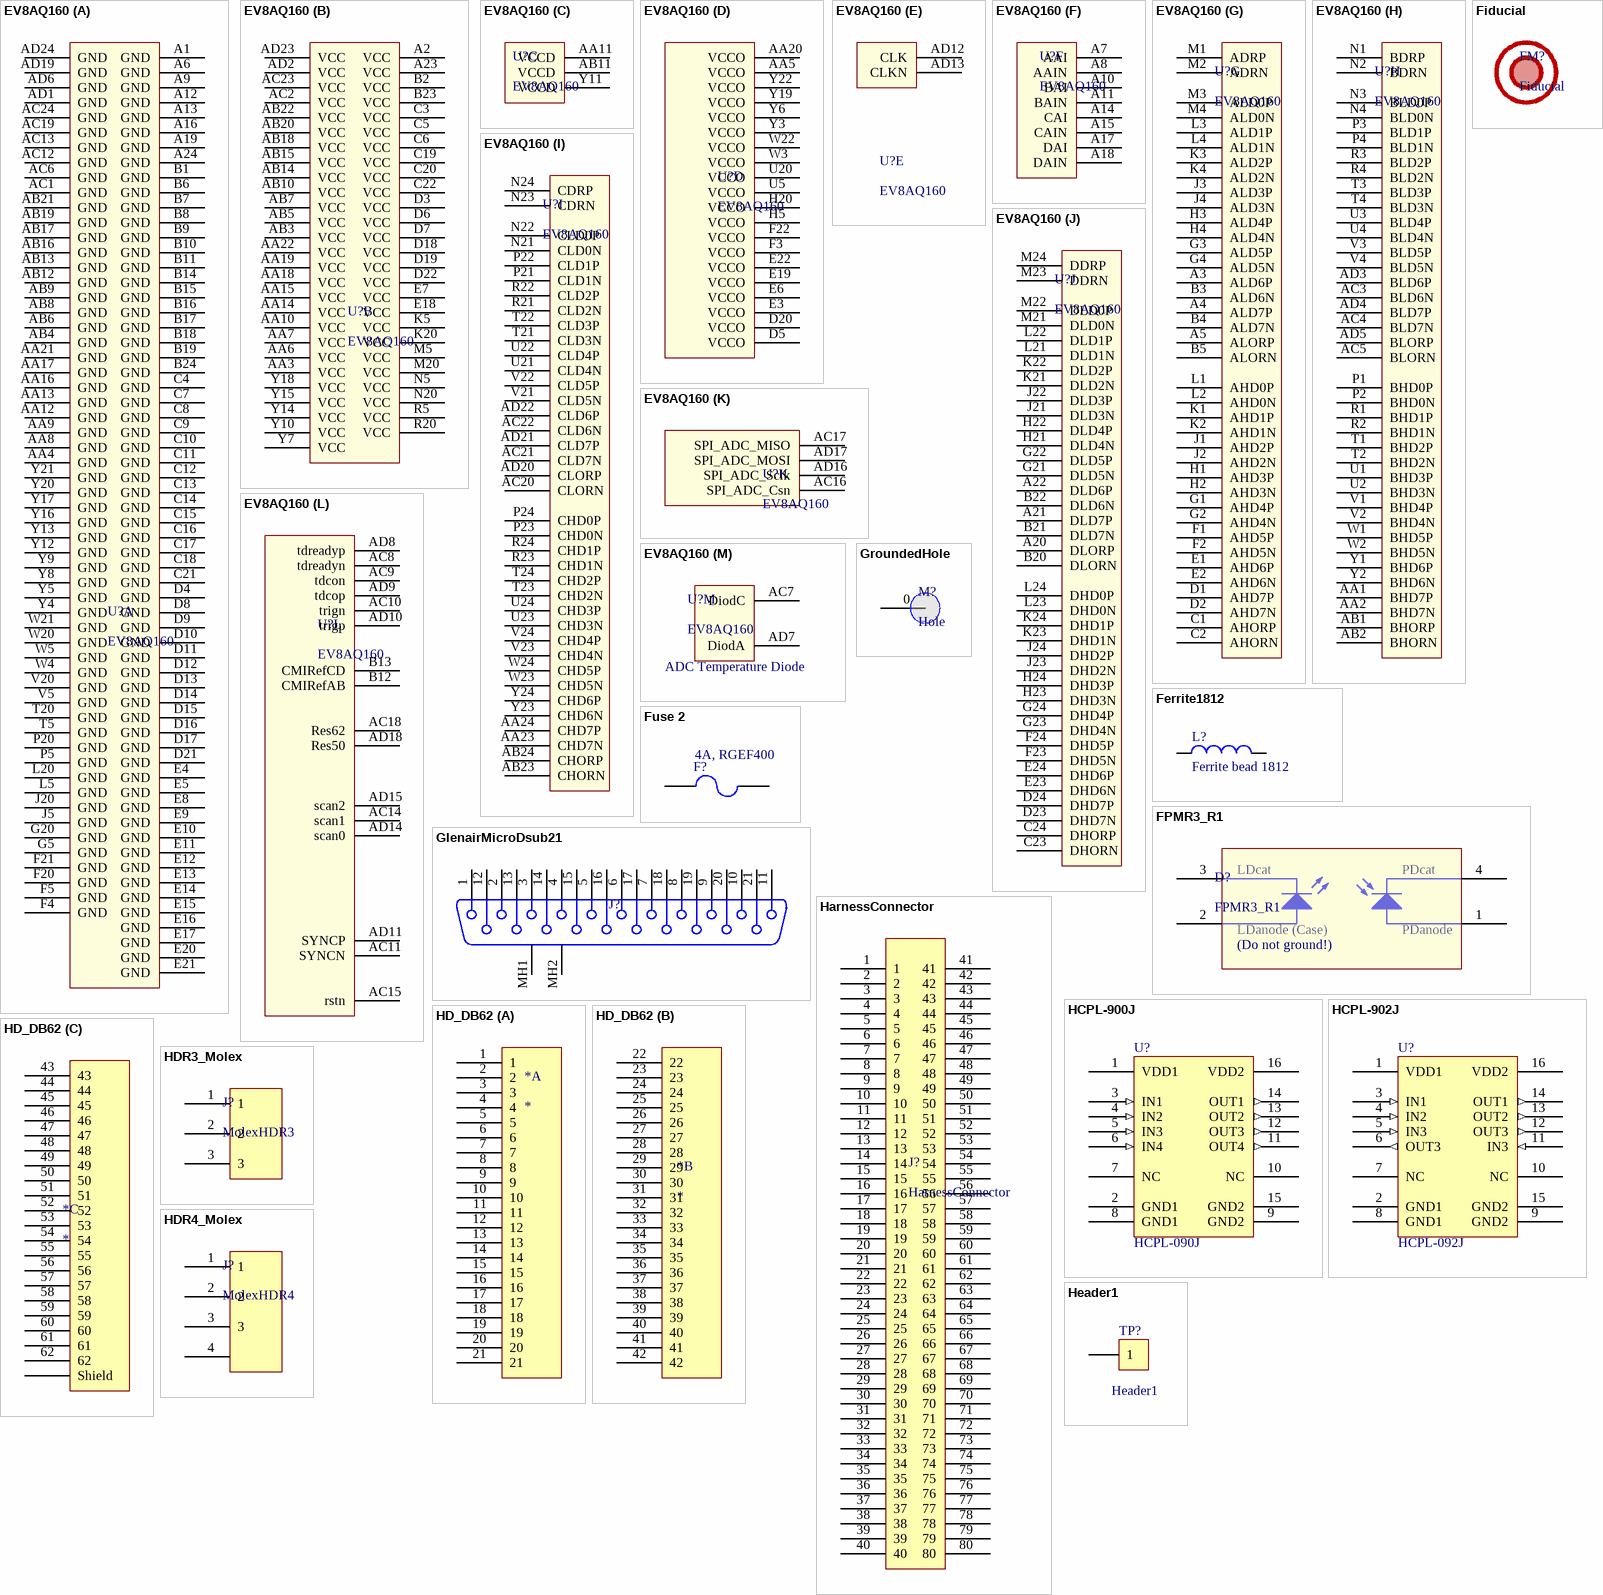
[diagram p3: symbols EV8AQ160 to Header1]

## EV8AQ160
designator U?
footprint BGA380C127P24X24_3100X3100X160 (BGA, 380-Leads, Body 31.0x31.0mm,  Pitch 1.27mm)
part A pins: A1 GND, A6 GND, A9 GND, A12 GND, A13 GND, A16 GND, A19 GND, A24 GND, AA4 GND, AA8 GND, AA9 GND, AA12 GND, AA13 GND, AA16 GND, AA17 GND, AA21 GND, AB4 GND, AB6 GND, AB8 GND, AB9 GND, AB12 GND, AB13 GND, AB16 GND, AB17 GND, AB19 GND, AB21 GND, AC1 GND, AC6 GND, AC12 GND, AC13 GND, AC19 GND, AC24 GND, AD1 GND, AD6 GND, AD19 GND, AD24 GND, B1 GND, B6 GND, B7 GND, B8 GND, B9 GND, B10 GND, B11 GND, B14 GND, B15 GND, B16 GND, B17 GND, B18 GND, B19 GND, B24 GND, C4 GND, C7 GND, C8 GND, C9 GND, C10 GND, C11 GND, C12 GND, C13 GND, C14 GND, C15 GND, C16 GND, C17 GND, C18 GND, C21 GND, D4 GND, D8 GND, D9 GND, D10 GND, D11 GND, D12 GND, D13 GND, D14 GND, D15 GND, D16 GND, D17 GND, D21 GND, E4 GND, E5 GND, E8 GND, E9 GND, E10 GND, E11 GND, E12 GND, E13 GND, E14 GND, E15 GND, E16 GND, E17 GND, E20 GND, E21 GND, F4 GND, F5 GND, F20 GND, F21 GND, G5 GND, G20 GND, J5 GND, J20 GND, L5 GND, L20 GND, P5 GND, P20 GND, T5 GND, T20 GND, V5 GND, V20 GND, W4 GND, W5 GND, W20 GND, W21 GND, Y4 GND, Y5 GND, Y8 GND, Y9 GND, Y12 GND, Y13 GND, Y16 GND, Y17 GND, Y20 GND, Y21 GND
part B pins: A2 VCC, A23 VCC, AA3 VCC, AA6 VCC, AA7 VCC, AA10 VCC, AA14 VCC, AA15 VCC, AA18 VCC, AA19 VCC, AA22 VCC, AB3 VCC, AB5 VCC, AB7 VCC, AB10 VCC, AB14 VCC, AB15 VCC, AB18 VCC, AB20 VCC, AB22 VCC, AC2 VCC, AC23 VCC, AD2 VCC, AD23 VCC, B2 VCC, B23 VCC, C3 VCC, C5 VCC, C6 VCC, C19 VCC, C20 VCC, C22 VCC, D3 VCC, D6 VCC, D7 VCC, D18 VCC, D19 VCC, D22 VCC, E7 VCC, E18 VCC, K5 VCC, K20 VCC, M5 VCC, M20 VCC, N5 VCC, N20 VCC, R5 VCC, R20 VCC, Y7 VCC, Y10 VCC, Y14 VCC, Y15 VCC, Y18 VCC
part C pins: AA11 VCCD, AB11 VCCD, Y11 VCCD
part D pins: AA5 VCCO, AA20 VCCO, D5 VCCO, D20 VCCO, E3 VCCO, E6 VCCO, E19 VCCO, E22 VCCO, F3 VCCO, F22 VCCO, H5 VCCO, H20 VCCO, U5 VCCO, U20 VCCO, W3 VCCO, W22 VCCO, Y3 VCCO, Y6 VCCO, Y19 VCCO, Y22 VCCO
part E pins: AD12 CLK, AD13 CLKN
part F pins: A7 AAI, A8 AAIN, A10 BAI, A11 BAIN, A14 CAI, A15 CAIN, A17 DAI, A18 DAIN
part G pins: A3 ALD6P, A4 ALD7P, A5 ALORP, B3 ALD6N, B4 ALD7N, B5 ALORN, C1 AHORP, C2 AHORN, D1 AHD7P, D2 AHD7N, E1 AHD6P, E2 AHD6N, F1 AHD5P, F2 AHD5N, G1 AHD4P, G2 AHD4N, G3 ALD5P, G4 ALD5N, H1 AHD3P, H2 AHD3N, H3 ALD4P, H4 ALD4N, J1 AHD2P, J2 AHD2N, J3 ALD3P, J4 ALD3N, K1 AHD1P, K2 AHD1N, K3 ALD2P, K4 ALD2N, L1 AHD0P, L2 AHD0N, L3 ALD1P, L4 ALD1N, M1 ADRP, M2 ADRN, M3 ALD0P, M4 ALD0N
part H pins: AA1 BHD7P, AA2 BHD7N, AB1 BHORP, AB2 BHORN, AC3 BLD6N, AC4 BLD7N, AC5 BLORN, AD3 BLD6P, AD4 BLD7P, AD5 BLORP, N1 BDRP, N2 BDRN, N3 BLD0P, N4 BLD0N, P1 BHD0P, P2 BHD0N, P3 BLD1P, P4 BLD1N, R1 BHD1P, R2 BHD1N, R3 BLD2P, R4 BLD2N, T1 BHD2P, T2 BHD2N, T3 BLD3P, T4 BLD3N, U1 BHD3P, U2 BHD3N, U3 BLD4P, U4 BLD4N, V1 BHD4P, V2 BHD4N, V3 BLD5P, V4 BLD5N, W1 BHD5P, W2 BHD5N, Y1 BHD6P, Y2 BHD6N
part I pins: AA23 CHD7N, AA24 CHD7P, AB23 CHORN, AB24 CHORP, AC20 CLORN, AC21 CLD7N, AC22 CLD6N, AD20 CLORP, AD21 CLD7P, AD22 CLD6P, N21 CLD0N, N22 CLD0P, N23 CDRN, N24 CDRP, P21 CLD1N, P22 CLD1P, P23 CHD0N, P24 CHD0P, R21 CLD2N, R22 CLD2P, R23 CHD1N, R24 CHD1P, T21 CLD3N, T22 CLD3P, T23 CHD2N, T24 CHD2P, U21 CLD4N, U22 CLD4P, U23 CHD3N, U24 CHD3P, V21 CLD5N, V22 CLD5P, V23 CHD4N, V24 CHD4P, W23 CHD5N, W24 CHD5P, Y23 CHD6N, Y24 CHD6P
part J pins: A20 DLORP, A21 DLD7P, A22 DLD6P, B20 DLORN, B21 DLD7N, B22 DLD6N, C23 DHORN, C24 DHORP, D23 DHD7N, D24 DHD7P, E23 DHD6N, E24 DHD6P, F23 DHD5N, F24 DHD5P, G21 DLD5N, G22 DLD5P, G23 DHD4N, G24 DHD4P, H21 DLD4N, H22 DLD4P, H23 DHD3N, H24 DHD3P, J21 DLD3N, J22 DLD3P, J23 DHD2N, J24 DHD2P, K21 DLD2N, K22 DLD2P, K23 DHD1N, K24 DHD1P, L21 DLD1N, L22 DLD1P, L23 DHD0N, L24 DHD0P, M21 DLD0N, M22 DLD0P, M23 DDRN, M24 DDRP
part K pins: AC16 SPI_ADC_Csn, AC17 SPI_ADC_MISO, AD16 SPI_ADC_Sclk, AD17 SPI_ADC_MOSI
part L pins: AC8 tdreadyn, AC9 tdcon, AC10 trign, AC11 SYNCN, AC14 scan1, AC15 rstn, AC18 Res62, AD8 tdreadyp, AD9 tdcop, AD10 trigp, AD11 SYNCP, AD14 scan0, AD15 scan2, AD18 Res50, B12 CMIRefAB, B13 CMIRefCD
part M pins: AC7 DiodC, AD7 DiodA
part M text: ADC Temperature Diode

## Ferrite1812
designator L?, comment Ferrite bead 1812
Inductor SM; Code_IEC: 1005; Published: 8-Jun-2000; LatestRevisionDate: 17-Jul-2002; LatestRevisionNote: Re-released for DXP Platform.; PackageReference: 0402-A; Publisher: Altium Limited; Code_JEITA: 0402
footprint 1812or4532
pins: 1, 2

## Fiducial
designator FM?
footprint Fiducial_mark

## FPMR3_R1
designator D?
FPMR3_R1 FP laser
footprint FPMR3_R1 (FP Laser 1310nm from agxtech.com)
pins: 1 PDanode, 2 LDanode, 3 LDcat, 4 PDcat
text: LDanode (Case); (Do not ground!)

## Fuse 2
designator F?, comment 4A, RGEF400
FUSE, 4A, 0.039ohm; Manufacturer: Tyco Electronics; Footprint: *; Param: 4A, 0.039ohm; Manufacturers P/N: RGEF400
simulation model FUSE (Spice Subcircuit)
footprint Fuse GF400
pins: 1, 2

## GlenairMicroDsub21
designator J?
GlenairMicroDsub21; PackageDescription: Connector; D-Sub, Thru-Hole; 9 Position; Vertical; Body 30.81 x 9.60 x 8.20 mm (LxWxH)
signal-integrity model D Subminiature
footprint MicroD21Glenair (Glenair MicroD 21 pin)
pins: 1, 2, 3, 4, 5, 6, 7, 8, 9, 10, 11, 12, 13, 14, 15, 16, 17, 18, 19, 20, 21, MH1, MH2

## GroundedHole
designator M?, comment Hole
footprint Grounded125milHole (Grounded Hole 125mil)
footprint Grounded150milHole (Grounded Hole 150mil)
pins: 0 Ground

## HarnessConnector
designator J?
footprint HarnessConnector
pins: 1, 2, 3, 4, 5, 6, 7, 8, 9, 10, 11, 12, 13, 14, 15, 16, 17, 18, 19, 20, 21, 22, 23, 24, 25, 26, 27, 28, 29, 30, 31, 32, 33, 34, 35, 36, 37, 38, 39, 40, 41, 42, 43, 44, 45, 46, 47, 48, 49, 50, 51, 52, 53, 54, 55, 56, 57, 58, 59, 60, 61, 62, 63, 64, 65, 66, 67, 68, 69, 70, 71, 72, 73, 74, 75, 76, 77, 78, 79, 80

## HCPL-900J
designator U?, comment HCPL-090J
Galvanic optoisolator, 4/0 SO16 NARROWBODY; Manufacturer: Avago Technologies US Inc.; Manufacturers P/N: HCPL-090J
footprint SO16
pins: 1 VDD1 (power), 2 GND1 (power), 3 IN1 (in), 4 IN2 (in), 5 IN3 (in), 6 IN4 (in), 7 NC, 8 GND1 (power), 9 GND2 (power), 10 NC, 11 OUT4 (out), 12 OUT3 (out), 13 OUT2 (out), 14 OUT1 (out), 15 GND2 (power), 16 VDD2 (power)

## HCPL-902J
designator U?, comment HCPL-092J
Galvanic optoisolator, 3/1 SO16 NARROWBODY; Manufacturer: Unknown; Manufacturers P/N: HCPL-092J
footprint SO16
pins: 1 VDD1 (power), 2 GND1 (power), 3 IN1 (in), 4 IN2 (in), 5 IN3 (in), 6 OUT3 (out), 7 NC, 8 GND1 (power), 9 GND2 (power), 10 NC, 11 IN3 (in), 12 OUT3 (out), 13 OUT2 (out), 14 OUT1 (out), 15 GND2 (power), 16 VDD2 (power)

## HD_DB62
designator *
footprint HD_DB62
part A pins: 1, 2, 3, 4, 5, 6, 7, 8, 9, 10, 11, 12, 13, 14, 15, 16, 17, 18, 19, 20, 21
part B pins: 22, 23, 24, 25, 26, 27, 28, 29, 30, 31, 32, 33, 34, 35, 36, 37, 38, 39, 40, 41, 42
part C pins: 43, 44, 45, 46, 47, 48, 49, 50, 51, 52, 53, 54, 55, 56, 57, 58, 59, 60, 61, 62, 63 Shield

## HDR3_Molex
designator J?, comment MolexHDR3
footprint HDR1X3_MolexVertical
footprint HDR1X3_MolexRightAngle
pins: 1, 2, 3

## HDR4_Molex
designator J?, comment MolexHDR4
footprint HDR1X4_MolexRightAngle
pins: 1, 2, 3, 4

## Header1
designator TP?
TestPoint1; Footprint: *; Techinf: *
footprint HDR1
pins: 1

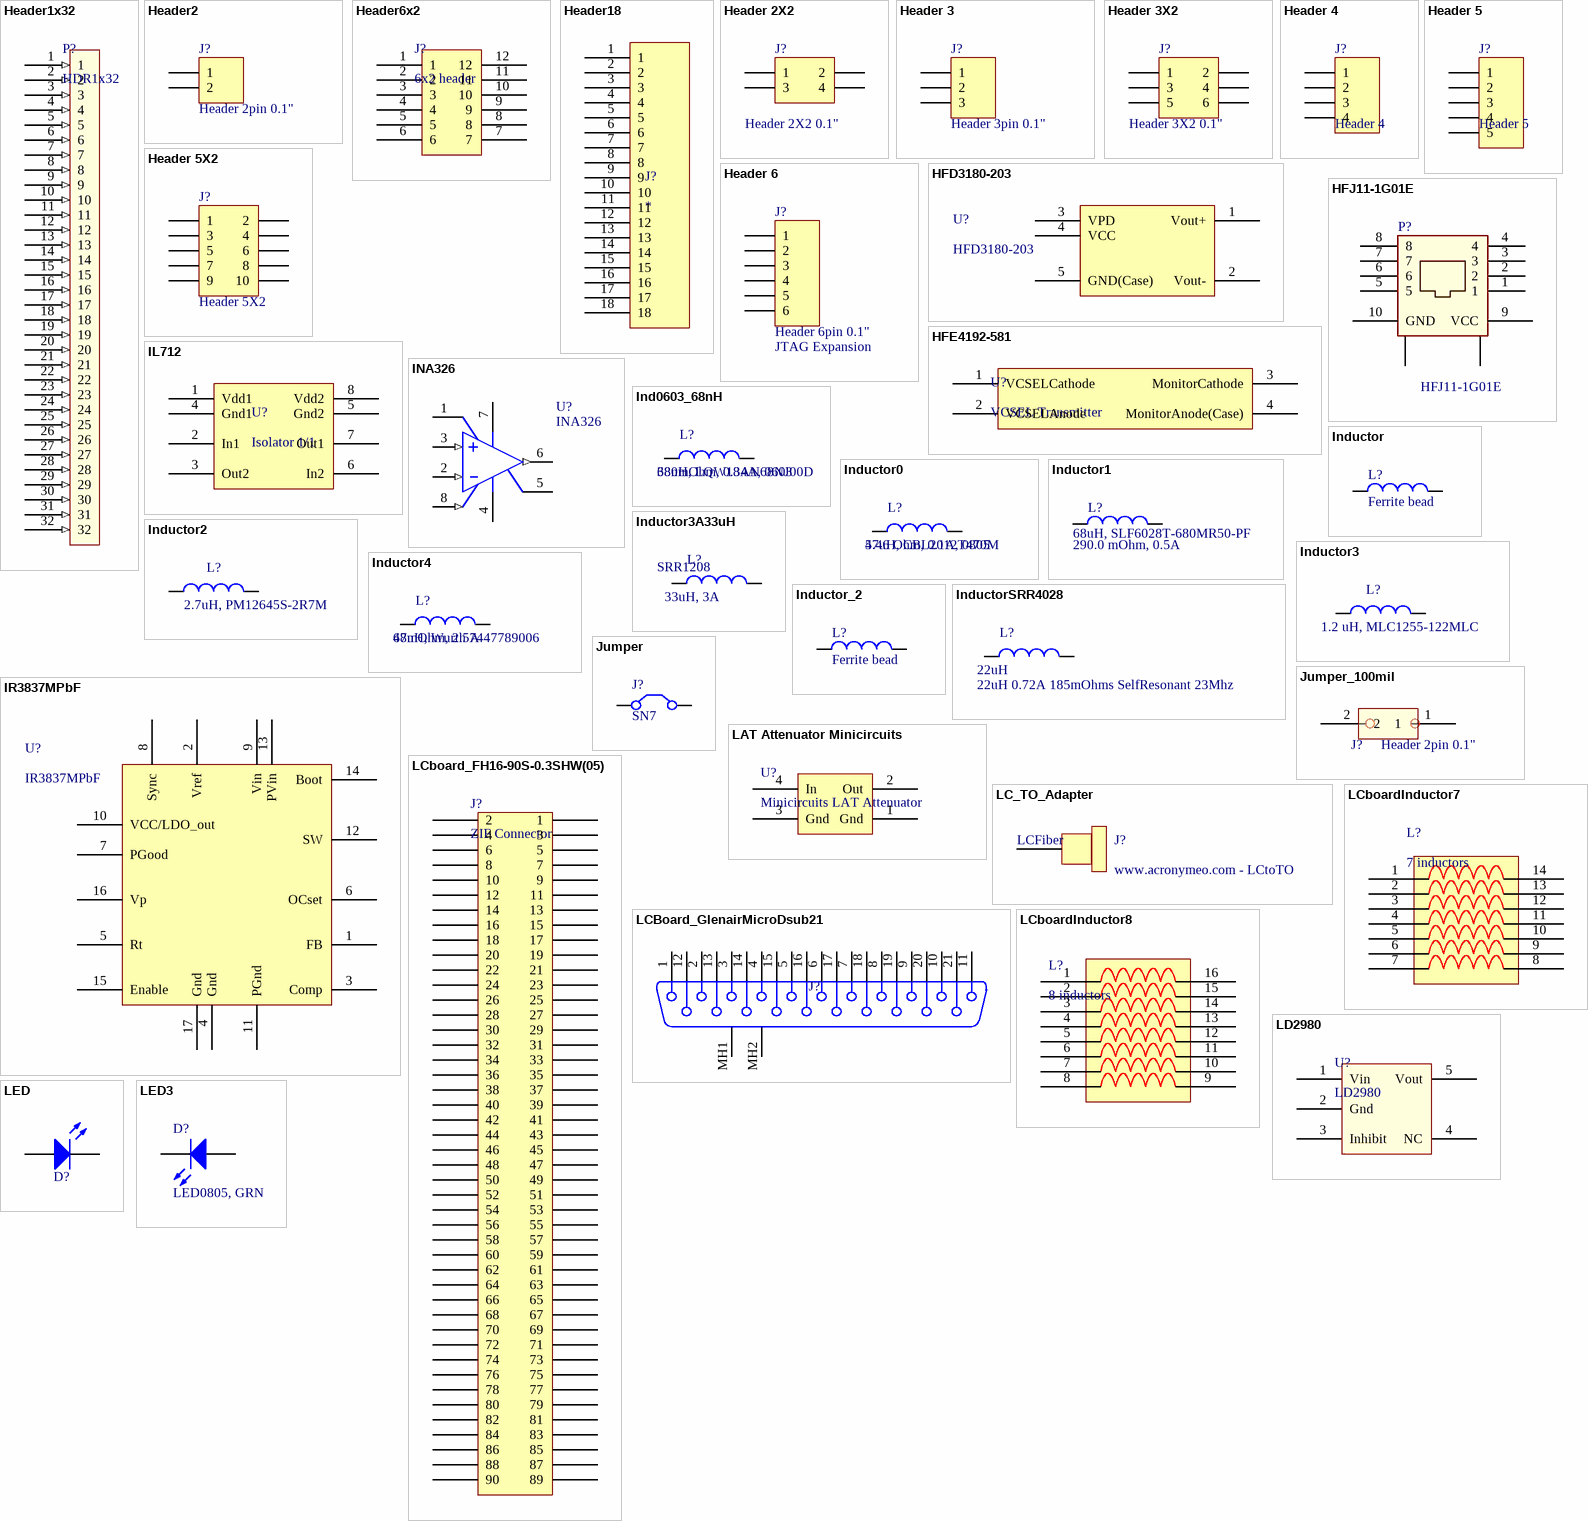
[diagram p4: symbols Header1x32 to LED3]

## Header1x32
designator P?, comment HDR1x32
footprint Header1x32
pins: 1 (in), 2 (in), 3 (in), 4 (in), 5 (in), 6 (in), 7 (in), 8 (in), 9 (in), 10 (in), 11 (in), 12 (in), 13 (in), 14 (in), 15 (in), 16 (in), 17 (in), 18 (in), 19 (in), 20 (in), 21 (in), 22 (in), 23 (in), 24 (in), 25 (in), 26 (in), 27 (in), 28 (in), 29 (in), 30 (in), 31 (in), 32 (in)

## Header2
designator J?, comment Header 2pin 0.1"
Header, 0.1", 2-Pin straight (Any equivalent - may need to be value added); Manufacturer: Digikey; Manufacturers P/N: A26508-02-ND; Footprint: *
footprint HDR1X2
pins: 1, 2

## Header6x2
designator J?, comment 6x2 header
footprint HDR2X6
pins: 1, 2, 3, 4, 5, 6, 7, 8, 9, 10, 11, 12

## Header18
designator J?
footprint HDR1X18
pins: 1, 2, 3, 4, 5, 6, 7, 8, 9, 10, 11, 12, 13, 14, 15, 16, 17, 18

## Header 2X2
designator J?, comment Header 2X2 0.1"
Header, 0.1" 2-Pin per row, Dual row (Any equivalent - may need to be value added); Manufacturer: Tyco Electronics; Manufacturers P/N: 4-103783-0-20 Broken Up; LatestRevisionDate: 17-Jul-2002; LatestRevisionNote: Re-released for DXP Platform.; Publisher: Altium Limited
signal-integrity model Connector
footprint HDR2X2
pins: 1, 2, 3, 4

## Header 3
designator J?, comment Header 3pin 0.1"
Header, 0.1"  3-Pin straight (Any equivalent - may need to be value added); Manufacturer: Digikey; Manufacturers P/N: A26508-03-ND
footprint HDR1X3
signal-integrity model Connector
pins: 1, 2, 3

## Header 3X2
designator J?, comment Header 3X2 0.1"
Header, 0.1" 3-Pin per row, Dual row (Any equivalent - may need to be value added); Manufacturer: Tyco Electronics; Manufacturers P/N: 4-103783-0-20 Broken Up; LatestRevisionDate: 17-Jul-2002; LatestRevisionNote: Re-released for DXP Platform.; Publisher: Altium Limited
footprint HDR2X3 (Connector; Header; 3x2 Position)
signal-integrity model Connector
pins: 1, 2, 3, 4, 5, 6

## Header 4
designator J?
Header, 0.1"  4-Pin straight; LatestRevisionDate: 17-Jul-2002; LatestRevisionNote: Re-released for DXP Platform.; Publisher: Altium Limited
signal-integrity model Connector
footprint HDR1X4
footprint CON4M
pins: 1, 2, 3, 4

## Header 5
designator J?
Header, 0.1"  5-Pin straight; LatestRevisionDate: 17-Jul-2002; LatestRevisionNote: Re-released for DXP Platform.; Publisher: Altium Limited
signal-integrity model Connector
footprint CON5M
pins: 1, 2, 3, 4, 5

## Header 5X2
designator J?
Header, 0.1" 5-Pin, Dual row straight; LatestRevisionDate: 17-Jul-2002; LatestRevisionNote: Re-released for DXP Platform.; Publisher: Altium Limited
footprint HDR2X5 (Connector; Header; 5x2 Position)
signal-integrity model Connector
pins: 1, 2, 3, 4, 5, 6, 7, 8, 9, 10

## Header 6
designator J?, comment Header 6pin 0.1"  Assembly: JTAG Expansion
Header, 0.1" 6-Pin straight (Any equivalent - may need to be value added); Manufacturer: Digikey; Manufacturers P/N: A26508-06-ND; Publisher: *
footprint HDR1X6
signal-integrity model Connector
pins: 1, 2, 3, 4, 5, 6

## HFD3180-203
designator U?
VCSEL receiver
footprint HFD3180-203
footprint HFD3180-203(VerticalAdapt) (VCSEL receiver with vertical LC-TO adapter)
pins: 1 Vout+, 2 Vout-, 3 VPD, 4 VCC, 5 GND(Case)

## HFE4192-581
designator U?, comment VCSEL Transmitter
footprint HFE4192-581
pins: 1 VCSELCathode, 2 VCSELAnode, 3 MonitorCathode, 4 MonitorAnode(Case)

## HFJ11-1G01E
designator P?
Gigabit HALO RJ45; Manufacturer: Halo; Manufacturers P/N: HFJ11-1G01E
footprint HALO_RJ45
pins: 1, 2, 3, 4, 5, 6, 7, 8, 9 VCC, 10 GND, 11 GND (power), 12 GND (power)

## IL712
designator U?, comment Isolator 1/1
footprint DIP-8 (DIP; 8 Leads; Row Spacing 7.62 mm; Pitch 2.54 mm)
pins: 1 Vdd1, 2 In1, 3 Out2, 4 Gnd1, 5 Gnd2, 6 In2, 7 Out1, 8 Vdd2

## INA326
designator U?
Amp, Instrumentation; Manufacturer: TI; Footprint: TSSOP 10; Manufacturers P/N: INA326
footprint Model Name (Footprint not found)
footprint SOP8
pins: 1 Rg1, 2 IN- (in), 3 IN+ (in), 4 V- (power), 5 REF, 6 OUT (out), 7 V+ (power), 8 Rg2 (in)

## Ind0603_68nH
designator L?, comment 68nH, LQW18AN68NJ00D  Param: 380mOhm, 0.34A, 0603
Inductor 68nH, 380mOhm, 0.34A, 0603; Manufacturer: Murata; Footprint: 0603; Manufacturers P/N: LQW18AN68NJ00D
footprint 0603
pins: 1, 2

## Inductor
designator L?, comment Ferrite bead
Inductor SM 0805; Manufacturer: TDK Corporation; Manufacturers P/N: MMZ2012R102A; Code_IEC: 1005; Published: 8-Jun-2000; LatestRevisionDate: 17-Jul-2002; LatestRevisionNote: Re-released for DXP Platform.; PackageReference: 0402-A; Publisher: Altium Limited; Code_JEITA: 0402
footprint INDC2012-0805
simulation model INDUCTOR (Inductor)
signal-integrity model Inductor
pins: 1, 2

## Inductor0
designator L?, comment 47uH, CBL2012T470M  Param: 5.46 Ohm, 0.1A, 0805
Inductor 47uH, 5.46 Ohm, 0.1A, 0805; Manufacturer: Taiyo Yuden; Footprint: 0805; Manufacturers P/N: CBL2012T470M
footprint 0805
pins: 1, 2

## Inductor1
designator L?, comment 68uH, SLF6028T-680MR50-PF  Param: 290.0 mOhm, 0.5A
Inductor 68uH, 290.0 mOhm, 0.5A; Manufacturer: TDK Corporation; Footprint: 6028; Manufacturers P/N: SLF6028T-680MR50-PF
footprint LL-6028Univ
pins: 1, 2

## Inductor2
designator L?, comment 2.7uH, PM12645S-2R7M
Inductor 7.3mOhms 15A 2.7uH; Manufacturer: JW Miller A Bourns Company; Footprint: *; Param: 15A; Manufacturers P/N: PM12645S-2R7M
simulation model INDUCTOR (Inductor)
signal-integrity model Inductor
footprint LL-PM1265Univ
pins: 1, 2

## Inductor3
designator L?, comment 1.2 uH, MLC1255-122MLC
1.2uH Inductor, 2.38 mOhm, 20A; Manufacturer: Coilcraft; Footprint: *; Param: *; Manufacturers P/N: MLC1255-122MLC
simulation model INDUCTOR (Inductor)
signal-integrity model Inductor
footprint LL-PM1265Univ
pins: 1, 2

## Inductor3A33uH
designator L?, comment 33uH, 3A  Footprint: SRR1208
Inductor, 33uH, 3A, 1208
footprint 1208
pins: 1, 2

## Inductor4
designator L?, comment 68uH, Wurth 7447789006  Param: 47mOhm, 2.5A
Inductor 68uH, 44mOhm, 2.5A; Manufacturers P/N: Wurth 7447789006
footprint WURTHIND7447789006 (Wurth 68uH Inductor)
pins: 1, 2

## Inductor_2
designator L?, comment Ferrite bead
Inductor SM 0805; Manufacturer: TDK Corporation; Manufacturers P/N: MMZ2012R102A; Code_IEC: 1005; Published: 8-Jun-2000; LatestRevisionDate: 17-Jul-2002; LatestRevisionNote: Re-released for DXP Platform.; PackageReference: 0402-A; Publisher: Altium Limited; Code_JEITA: 0402
footprint INDC2012-0805
simulation model INDUCTOR (Inductor)
signal-integrity model Inductor
pins: 1, 2

## InductorSRR4028
designator L?, comment 22uH  PartConstraints: 22uH 0.72A 185mOhms SelfResonant 23Mhz
=PartConstraints; Manufacturer: Bourns; Manufacturers P/N: SRR4028-220Y; Resistance: 185mOhms; CurrentRating: 0.72A; SRF: SelfResonant 23Mhz; Footprint: SRR4028; Inductance: 22uH
footprint SRR4028
pins: 1, 2

## IR3837MPbF
designator U?
14A buck regulator
footprint IR3837MPbF (International Rectifier 14A buck regulator)
pins: 1 FB, 2 Vref, 3 Comp, 4 Gnd, 5 Rt, 6 OCset, 7 PGood, 8 Sync, 9 Vin, 10 VCC/LDO_out, 11 PGnd, 12 SW, 13 PVin, 14 Boot, 15 Enable, 16 Vp, 17 Gnd

## Jumper
designator J?, comment SN7
Jumper Wire; Manufacturer: Make in house; Manufacturers P/N: None - cut piece of wire; Footprint: *
footprint MHDR1X2
pins: 1 C1, 2 C2

## Jumper_100mil
designator J?, comment Header 2pin 0.1"
Header, 0.1", 2-Pin straight (Any equivalent - may need to be value added); Manufacturer: Digikey; Manufacturers P/N: A26508-02-ND
footprint HDR1X2
pins: 1, 2

## LAT Attenuator Minicircuits
designator U?, comment Minicircuits LAT Attenuator
footprint PL-225 (Minicircuits 4 pin  SOT143)
pins: 1 Gnd, 2 Out, 3 Gnd, 4 In

## LC_TO_Adapter
designator J?, comment www.acronymeo.com - LCtoTO
FrontPanelLaserMount
text: LCFiber

## LCboard_FH16-90S-0.3SHW(05)
designator J?, comment ZIF Connector
footprint LCBoard_ZIFCon (HFP190CT-ND)
pins: 1, 2, 3, 4, 5, 6, 7, 8, 9, 10, 11, 12, 13, 14, 15, 16, 17, 18, 19, 20, 21, 22, 23, 24, 25, 26, 27, 28, 29, 30, 31, 32, 33, 34, 35, 36, 37, 38, 39, 40, 41, 42, 43, 44, 45, 46, 47, 48, 49, 50, 51, 52, 53, 54, 55, 56, 57, 58, 59, 60, 61, 62, 63, 64, 65, 66, 67, 68, 69, 70, 71, 72, 73, 74, 75, 76, 77, 78, 79, 80, 81, 82, 83, 84, 85, 86, 87, 88, 89, 90

## LCBoard_GlenairMicroDsub21
designator J?
LCBoard_GlenairMicroDsub21; PackageDescription: Connector; D-Sub, Thru-Hole; 9 Position; Vertical; Body 30.81 x 9.60 x 8.20 mm (LxWxH)
signal-integrity model D Subminiature
footprint MicroD-MWDM2L-21SCBRP-.110 (Glenair MicroD 21 pin)
pins: 1, 2, 3, 4, 5, 6, 7, 8, 9, 10, 11, 12, 13, 14, 15, 16, 17, 18, 19, 20, 21, MH1, MH2

## LCboardInductor7
designator L?, comment 7 inductors
footprint LCboardInductor7
pins: 1, 2, 3, 4, 5, 6, 7, 8, 9, 10, 11, 12, 13, 14

## LCboardInductor8
designator L?, comment 8 inductors
footprint LCboardInductor8
pins: 1, 2, 3, 4, 5, 6, 7, 8, 9, 10, 11, 12, 13, 14, 15, 16

## LD2980
designator U?
Regulator
footprint SOT23-5
pins: 1 Vin, 2 Gnd, 3 Inhibit, 4 NC, 5 Vout

## LED
designator D?, comment LTST-S270KSKT, Yellow  (value not drawn)
LED Side View Yellow 0603; Manufacturer: Lite-On Inc; Footprint: 0603; Manufacturers P/N: LTST-S270KSKT
footprint LED-S270KGKT (Footprint not found)
pins: 1 A, 2 K

## LED3
designator D?, comment LED0805, GRN
LED 0805 LTST-C170GKT; Manufacturer: Lite-On Inc; Published: 8-Jun-2000; LatestRevisionDate: 17-Dec-2003; LatestRevisionNote: PCB Footprint replaced.; Publisher: Altium Limited; Manufacturers P/N: LTST-C170GKT
footprint 0805L (0805 LED)
pins: 1 K, 2 A

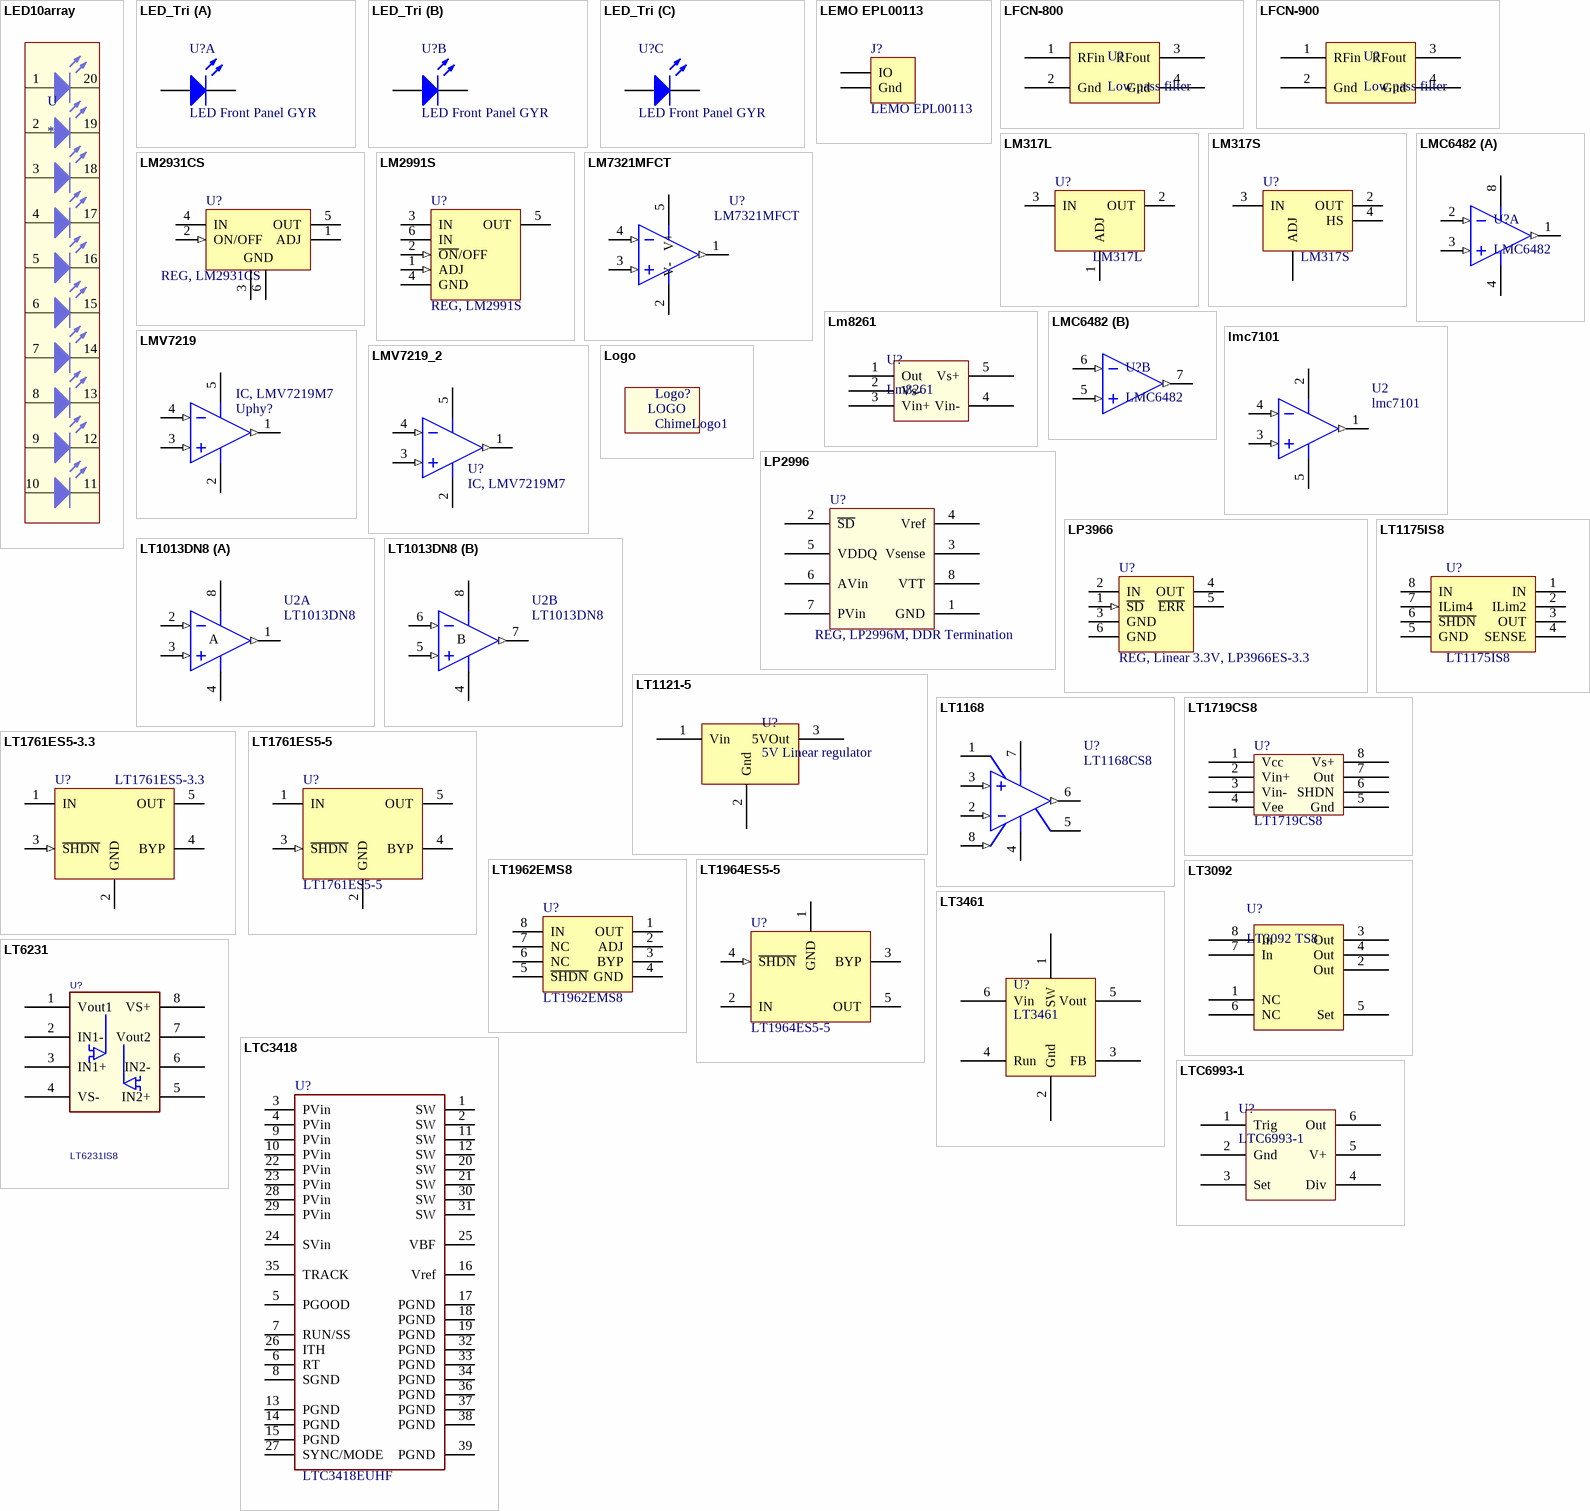
[diagram p5: symbols LED10array to LTC6993-1]

## LED10array
designator U
footprint LED10array
pins: 1, 2, 3, 4, 5, 6, 7, 8, 9, 10, 11, 12, 13, 14, 15, 16, 17, 18, 19, 20

## LED_Tri
designator U?, comment LED Front Panel GYR
564-0200-132F
footprint LED_Tri_ (Three LEDs in one package)
part A pins: A1 A, K1 K
part B pins: A2 A, K2 K
part C pins: A3 A, K3 K

## LEMO EPL00113
designator J?
Header, 0.1", 2-Pin straight (Any equivalent - may need to be value added); Footprint: *; Manufacturer: LEMO; Manufacturers P/N: LEMO EPL00113
footprint LemoEPL.00.113 (Lemo Connector)
pins: 0 Gnd, 1 IO

## LFCN-800
designator U?, comment Low pass filter
footprint FV1206
pins: 1 RFin, 2 Gnd, 3 RFout, 4 Gnd

## LFCN-900
designator U?, comment Low pass filter
footprint FV1206
pins: 1 RFin, 2 Gnd, 3 RFout, 4 Gnd

## LM317L
designator U?
REG, POSITIVE ADJ SOT-89-3 (100mA); Manufacturer: National Semiconductor; Footprint: *; Manufacturers P/N: LM317L
footprint SOT89-150P350X160-3N (SOT89, 3-Leads, Body 4.5x2.5mm (max), Pitch 1.50mm, Lead Span 3.5mm, IPC Medium Density)
pins: 1 ADJ (power) "GND", 2 OUT (power), 3 IN (power)

## LM317S
designator U?
REG, POSITIVE ADJ TO-263; Manufacturer: National Semiconductor; Manufacturers P/N: LM317S/NOPB; Footprint: *
footprint TO263-3
pins: 1 ADJ (power) "GND", 2 OUT (power), 3 IN (power), 4 HS (power) "Seating pin"

## LM2931CS
designator U?, comment REG, LM2931CS
Series Low-Dropout Regulator; Note: Tab is GND; Published: 15-Apr-2002; DatasheetDocument: Apr-1998; PackageReference: TS5B; Publisher: Altium Limited; ComponentLink1Description: Manufacturer Link; ComponentLink1URL: http://www.national.com/
footprint TS5B (D2-PAK; 5 Leads; Body 14.4 (inc. leads) x 10.4 mm (LxW max))
pins: 1 ADJ, 2 ON/OFF (in), 3 GND (power), 4 IN (power), 5 OUT (power), 6 GND (TAB) (power)

## LM2991S
designator U?, comment REG, LM2991S
Negative Low-Dropout Adjustable Regulator; Note: Tab is Input; Published: 15-Apr-2002; DatasheetDocument: May-1999; PackageReference: TS5B; Publisher: Altium Limited; ComponentLink1Description: Manufacturer Link; ComponentLink1URL: http://www.national.com/
footprint TS5B (D2-PAK; 5 Leads; Body 14.4 (inc. leads) x 10.4 mm (LxW max))
pins: 1 ADJ (in), 2 ~{ON}/OFF (in), 3 IN (power), 4 GND (power), 5 OUT (power), 6 IN (power)

## LM7321MFCT
designator U?
Amp, High Precision, Low Noise  Op Amp; Manufacturer: ST; Footprint: *; Manufacturers P/N: LM7321MFCT
footprint SOT23-5
pins: 1 OUT (out), 2 V- (power), 3 IN+ (in), 4 IN- (in), 5 V+ (power)

## Lm8261
designator U?
Opamp 21Mhz StableAnyCap Sot235; Part Constraints: LM8261M5; Manufacturer: National Semiconductor; Can Purchase From: Digikey; Value: *; Manufacturers P/N: LM8261M5
footprint SOT23-5
pins: 1 Out, 2 Vs-, 3 Vin+, 4 Vin-, 5 Vs+

## LMC6482
designator U?
Opamp x2 Soic8
footprint SO8
part A pins: 1 OUT (out), 2 IN- (in), 3 IN+ (in), 4 V- (power), 8 V+ (power)
part B pins: 5 IN+ (in), 6 IN- (in), 7 OUT (out)

## lmc7101
designator U2
Operational Amplifier
footprint SOT23-5
pins: 1 OUT (out), 2 V+ (power), 3 IN+ (in), 4 IN- (in), 5 V- (power)

## LMV7219
designator Uphy?, comment IC, LMV7219M7
Voltage Comparator; Manufacturer: National Semiconductor; Manufacturers P/N: LMV7219M7/NOPB
footprint MAA05A (SOT-353/SC-88A; 5 Leads; Body 2.1 x 2.4 mm, inc. leads (LxW max))
pins: 1 OUT (out), 2 V- (power), 3 IN+ (in), 4 IN- (in), 5 V+ (power)

## LMV7219_2
designator U?, comment IC, LMV7219M7
Voltage Comparator; Manufacturer: National Semiconductor; Manufacturers P/N: LMV7219M7/NOPB
footprint MAA05A
pins: 1 OUT (out), 2 V- (power), 3 IN+ (in), 4 IN- (in), 5 V+ (power)

## Logo
designator Logo?, comment ChimeLogo1
footprint ChimeLogo1
text: LOGO

## LP2996
designator U?, comment REG, LP2996M, DDR Termination
DDR Termination Regulator; Manufacturer: National Semiconductor; Manufacturers P/N: LP2996M/NOPB
footprint SO8
pins: 1 GND (power), 2 ~{SD}, 3 Vsense, 4 Vref, 5 VDDQ, 6 AVin, 7 PVin, 8 VTT

## LP3966
designator U?, comment REG, Linear 3.3V, LP3966ES-3.3
3A Fast Ultra Low Dropout Linear Regulator
footprint TS5B (D2-PAK; 5 Leads; Body 14.4 (inc. leads) x 10.4 mm (LxW max))
pins: 1 ~{SD} (in), 2 IN (power), 3 GND (power), 4 OUT (power), 5 ~{ERR}, 6 GND (power)

## LT1013DN8
designator U2
Dual Precision Operational Amplifier; Note: 206; Published: 8-Jun-2000; LatestRevisionDate: 29-May-2009; LatestRevisionNote: Component Body Added.; DatasheetVersion: Jan-1996; PackageVersion: N8 1002; PackageReference: N8; Publisher: Altium Limited; PackageDescription: DIP, Plastic, 8-Pin, Row Spacing 7.62 mm, Pitch 2.54 mm; ComponentLink1Description: Manufacturer Link; ComponentLink1URL: http://www.linear.com/; ComponentLink2Description: Datasheet; ComponentLink2URL: http://www.linear.com/pc/downloadDocument.do?navId=H0,C1,C1154,C1009,C1021,P1223,D3743
footprint N8 (DIP, 8-Leads, Row Spacing 7.62mm, Pitch 2.54mm, Body 9.78x6.48mm)
3D model N8 (DIP, Plastic, 8-Pin, Row Spacing 7.62 mm, Pitch 2.54 mm)
simulation model LT1013D (SUBCKT)
pins on every part: 4 V- (power), 8 V+ (power)
part A pins: 1 OUT (out), 2 IN- (in), 3 IN+ (in)
part B pins: 5 IN+ (in), 6 IN- (in), 7 OUT (out)
part A text: A
part B text: B

## LT1121-5
designator U?, comment 5V Linear regulator
footprint TO-92 (TO, Flat Index; 3 In-Line, Axial Leads; Body Dia. 5.1mm; Leads 0.48 x 0.48 mm (max))
pins: 1 Vin, 2 Gnd, 3 5VOut

## LT1168
designator U?, comment LT1168CS8
Amp, Instrumentation, Low bias current; Manufacturer: Linear Technology; Manufacturers P/N: LT1168CS8#PBF; Footprint: SO-G8 (SOIC)
simulation model LT1168 (Model Description)
footprint SO8
pins: 1 Rg1, 2 IN- (in), 3 IN+ (in), 4 V- (power), 5 REF, 6 OUT (out), 7 V+ (power), 8 Rg2 (in)

## LT1175IS8
designator U?
REG, negative micropower low dropout; Manufacturer: Linear Technology; Manufacturers P/N: LT1175IS8#PBF; Footprint: *
footprint SO8
pins: 1 IN (power), 2 ILim2, 3 OUT, 4 SENSE (power), 5 GND, 6 ~{SHDN}, 7 ILim4, 8 IN (power)

## LT1719CS8
designator U?
Ultrafast comparator
footprint SO8
pins: 1 Vcc, 2 Vin+, 3 Vin-, 4 Vee, 5 Gnd, 6 SHDN, 7 Out, 8 Vs+

## LT1761ES5-3.3
designator U?
100mA, Low Noise, Low Dropout Positive Micropower Regulator; Note: 1917; Published: 30-May-2008; DatasheetVersion: Aug-2007; PackageVersion: 2005; PackageReference: S5; Publisher: Altium Limited; PackageDescription: 5-Pin SOT-23 Package 0.95 mm Pitch, 2.8 mm Lead Span; Code_JEITA: SC-74A; Code_IPC: SOT23-5; ComponentLink1Description: Manufacturer Link; ComponentLink1URL: http://www.linear.com/; ComponentLink2Description: Datasheet; ComponentLink2URL: http://www.linear.com/pc/downloadDocument.do?navId=H0,C1,C1003,C1040,C1019,P2168,D1258
footprint SOT23-5
pins: 1 IN (power), 2 GND (power), 3 ~{SHDN} (in), 4 BYP, 5 OUT (power)

## LT1761ES5-5
designator U?
200mA, Low Noise, Low Dropout Positive Micropower Regulator; Note: 1917; Published: 30-May-2008; DatasheetVersion: Aug-2007; PackageVersion: 2005; PackageReference: S5; Publisher: Altium Limited; PackageDescription: 5-Pin SOT-23 Package 0.95 mm Pitch, 2.8 mm Lead Span; Code_JEITA: SC-74A; Code_IPC: SOT23-5; ComponentLink1Description: Manufacturer Link; ComponentLink1URL: http://www.linear.com/; ComponentLink2Description: Datasheet; ComponentLink2URL: http://www.linear.com/pc/downloadDocument.do?navId=H0,C1,C1003,C1040,C1019,P2168,D1258
footprint SOT23-5
pins: 1 IN (power), 2 GND (power), 3 ~{SHDN} (in), 4 BYP, 5 OUT (power)

## LT1962EMS8
designator U?
REG, micropower, low noise, low  dropout; Manufacturer: Linear Technology; Manufacturers P/N: LT1962EMS8#PBF; Footprint: *
footprint MSOP-8
pins: 1 OUT (power), 2 ADJ, 3 BYP, 4 GND (power), 5 ~{SHDN}, 6 NC, 7 NC, 8 IN (power)

## LT1964ES5-5
designator U?
200mA, Low Noise, Low Dropout Negative Micropower Regulator; Note: 1917; Published: 30-May-2008; DatasheetVersion: Aug-2007; PackageVersion: 2005; PackageReference: S5; Publisher: Altium Limited; PackageDescription: 5-Pin SOT-23 Package 0.95 mm Pitch, 2.8 mm Lead Span; Code_JEITA: SC-74A; Code_IPC: SOT23-5; ComponentLink1Description: Manufacturer Link; ComponentLink1URL: http://www.linear.com/; ComponentLink2Description: Datasheet; ComponentLink2URL: http://www.linear.com/pc/downloadDocument.do?navId=H0,C1,C1003,C1040,C1019,P2168,D1258
footprint S5_N (SOT23, 5-Leads, Body 3x1.6mm, Pitch 0.95mm, Lead Span 2.8mm, IPC Medium Density)
footprint S5_L (SOT23, 5-Leads, Body 3x1.6mm, Pitch 0.95mm, Lead Span 2.8mm, IPC High Density)
footprint S5_M (SOT23, 5-Leads, Body 3x1.6mm, Pitch 0.95mm, Lead Span 2.8mm, IPC Low Density)
pins: 1 GND (power), 2 IN (power), 3 BYP, 4 ~{SHDN} (in), 5 OUT (power)

## LT3092
designator U?, comment LT3092 TS8
footprint SOT23-8 (SSOP; 8 Leads; Body Width 1.6 mm; Pitch 0.65 mm)
pins: 1 NC, 2 Out, 3 Out, 4 Out, 5 Set, 6 NC, 7 In, 8 In

## LT3461
designator U?
DC-DC
footprint SOT23-6
pins: 1 SW, 2 Gnd, 3 FB, 4 Run, 5 Vout, 6 Vin

## LT6231
designator U?, comment LT6231IS8
COMPFIXED: NO; COMPGROUP: 0; COMPHEIGHT: 0.000; COMPROT: 180; COMPSIDE: TOP; COMPKEY: NO; COMPLOCKED: NO; DECOUPLER: NO; MEMORY: NO; COMPLOC: =Ud2_COMPLOC
footprint SO8/L200
footprint SO8/L200
pins: 1 Vout1, 2 IN1-, 3 IN1+, 4 VS-, 5 IN2+, 6 IN2-, 7 Vout2, 8 VS+

## LTC3418
designator U?, comment LTC3418EUHF
REG, 8A, 4MHz, Monolithic Syncronous Step-Down; Manufacturer: Linear Technology; Manufacturers P/N: LTC3418EUHF#PBF
footprint QFN38(5X7)
pins: 1 SW, 2 SW, 3 PVin (power), 4 PVin (power), 5 PGOOD, 6 RT, 7 RUN/SS, 8 SGND (power), 9 PVin (power), 10 PVin (power), 11 SW, 12 SW, 13 PGND (power), 14 PGND (power), 15 PGND (power), 16 Vref, 17 PGND (power), 18 PGND (power), 19 PGND (power), 20 SW, 21 SW, 22 PVin (power), 23 PVin (power), 24 SVin, 25 VBF, 26 ITH, 27 SYNC/MODE, 28 PVin (power), 29 PVin (power), 30 SW, 31 SW, 32 PGND (power), 33 PGND (power), 34 PGND (power), 35 TRACK, 36 PGND (power), 37 PGND (power), 38 PGND (power), 39 PGND (power)

## LTC6993-1
designator U?
Rising edge triggered Monostable
footprint SOT23-6
pins: 1 Trig, 2 Gnd, 3 Set, 4 Div, 5 V+, 6 Out

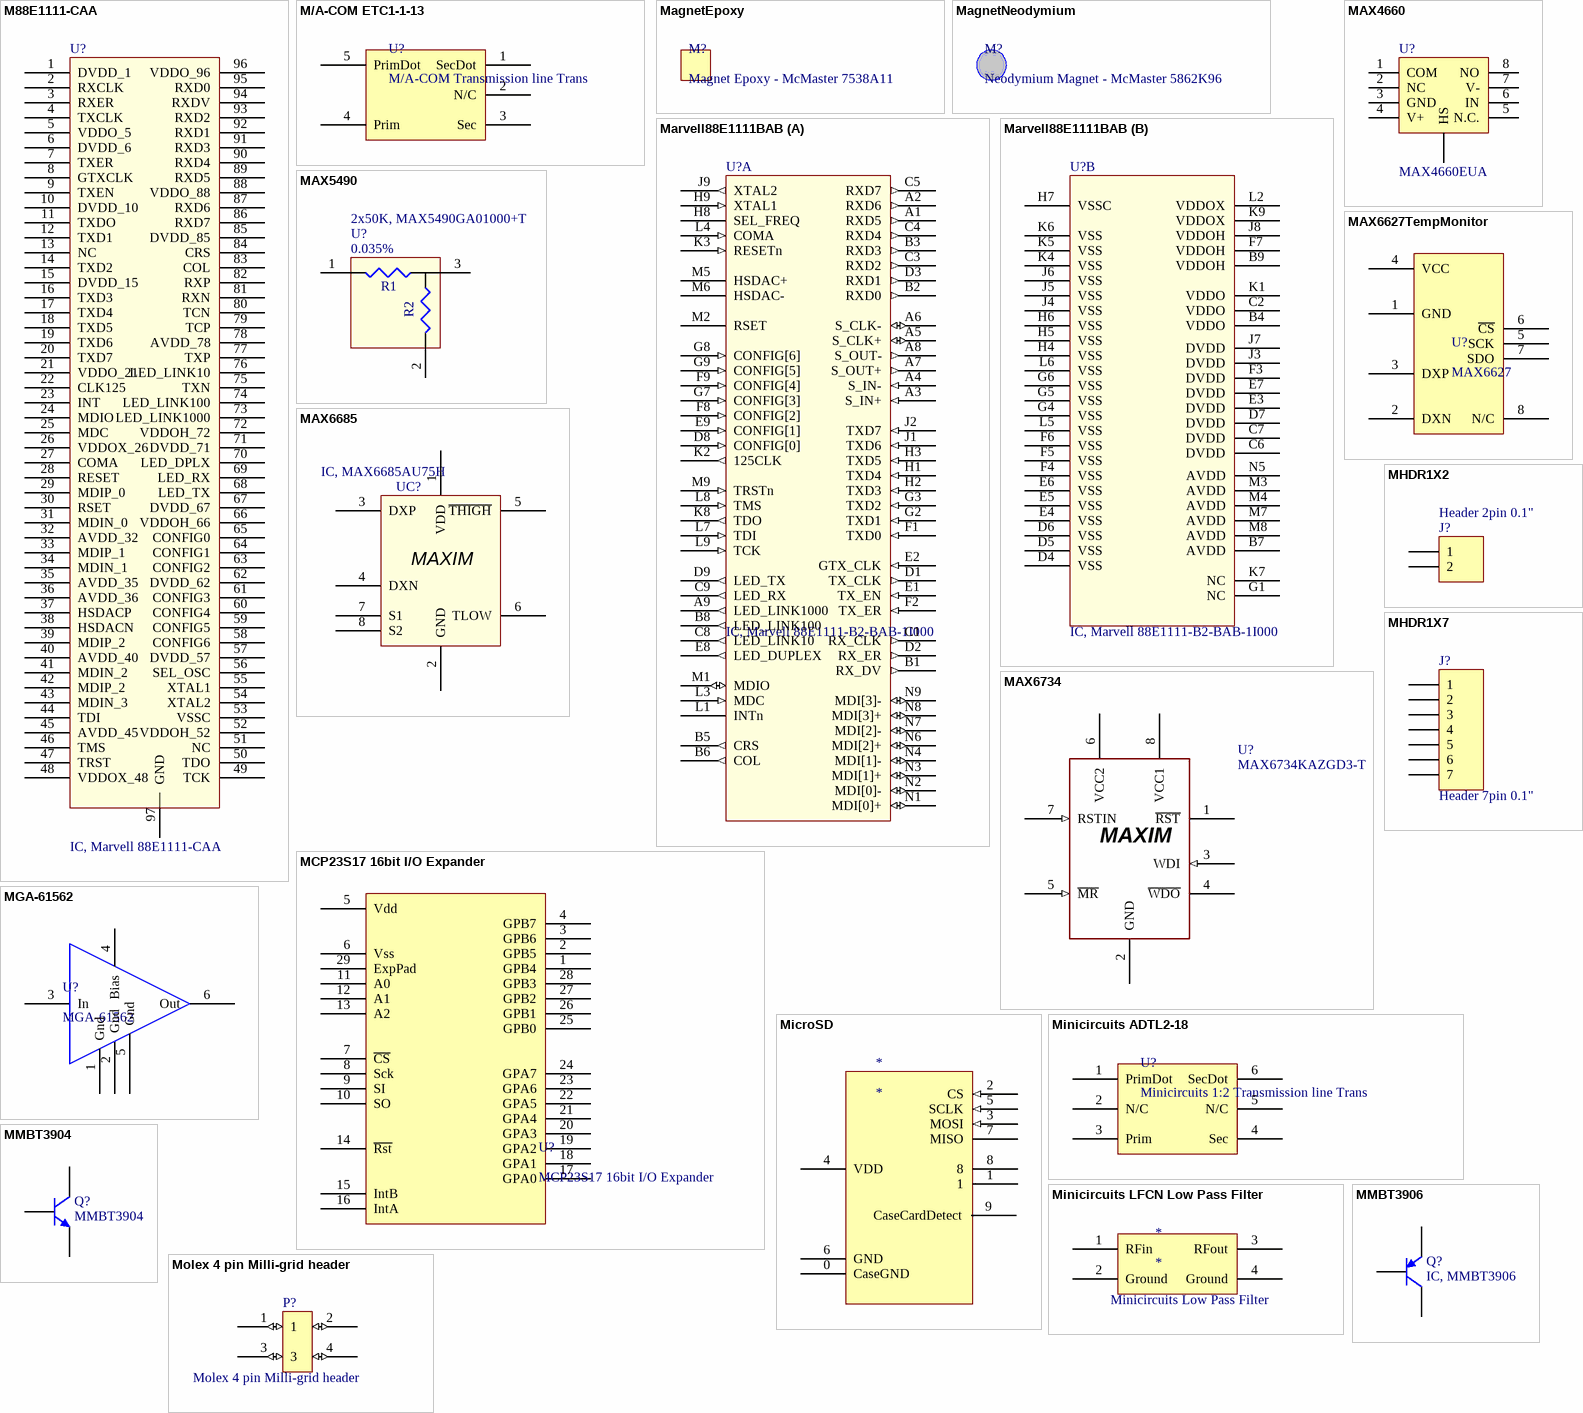
[diagram p6: symbols M88E1111-CAA to Molex 4 pin Milli-grid header]